# Altium integrated library Altera Cyclone V GX.IntLib: 50 symbols (part 27 of 31)
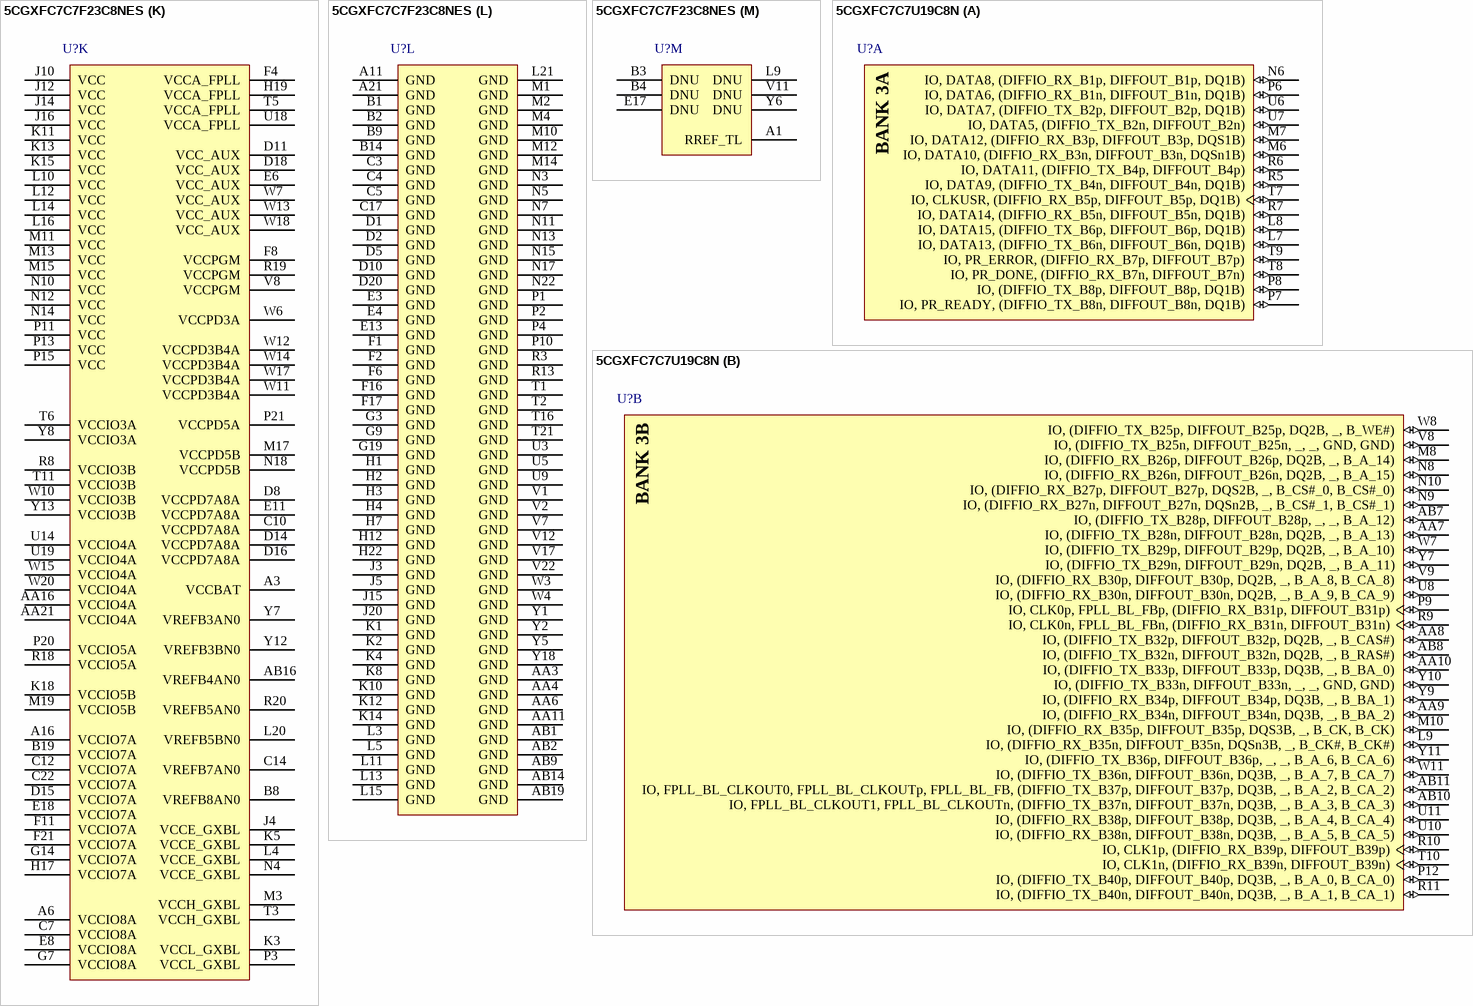
[diagram p171: symbols 5CGXFC7C7F23C8NES to 5CGXFC7C7U19C8N]

## 5CGXFC7C7F23C8NES
designator U?
Cyclone V GX Family FPGA, 1.07 to 1.13 V Supply, 240 I/O Pins, 7 PLLs, 484-Pin FBGA, Speed Grade 8, Commercial Grade, RoHS Compliant; Manufacturer: Altera; PartNumber: 5CGXFC7C7F23C8NES; Device Group: 5CGXFC7; GPIO: 240; Logic Elements (LE) (K): 149.5; Speed Grade: 8; DatasheetVersion: Rev. 3.1; PackageVersion: 2; PackageReference: 484-FBGA-2000A; PackageDescription: 484-Pin FineLine Ball-Grid Array (FBGA), Body 23 x 23 mm, Pitch 1 mm; Supplier 1: Digi-Key; Supplier Part Number 1: 544-2741-ND; Supplier 2: Mouser; Supplier Part Number 2: 989-5CGXFC7C7F23C8NE; RoHS: RoHS Compliant; Subcategory: Cyclone V GX; Voltage Supply: 1.07 to 1.13 V; Mounting Technology: Surface Mount; Code_JEDEC: MS-034-AAJ-1; ComponentLink1Description: Manufacturer URL; ComponentLink1URL: http://www.altera.com; ComponentLink2Description: Datasheet; ComponentLink2URL: http://www.altera.com/literature/hb/cyclone-v/cv_51002.pdf; ComponentLink3Description: Package Specification; ComponentLink3URL: http://www.altera.com/devicepackaging/04R00434-01.pdf; ComponentLink4Description: Device Handbook URL; ComponentLink4URL: http://www.altera.com/literature/hb/cyclone-v/cyclone5_handbook.pdf; ComponentLink5Description: Device Overview URL; ComponentLink5URL: http://www.altera.com/literature/hb/cyclone-v/cv_51001.pdf; ComponentLink6Description: Device Pin-Out URL; ComponentLink6URL: http://www.altera.com/literature/dp/cyclone-v/1.txt; ComponentLink7Description: Product URL; ComponentLink7URL: http://www.buyaltera.com/scripts/partsearch.dll?Detail&name=544-2741-ND
footprint ALTR-484-FBGA-2000A (FBGA, 484-Balls, Body 23x23mm, Pitch 1mm, Recommended)
part A pins: M6 IO, PR_DONE, (DIFFIO_RX_B7n, DIFFOUT_B7n) (io), M7 IO, PR_ERROR, (DIFFIO_RX_B7p, DIFFOUT_B7p) (io), N6 IO, DATA12, (DIFFIO_RX_B3p, DIFFOUT_B3p, DQS1B) (io), P6 IO, DATA10, (DIFFIO_RX_B3n, DIFFOUT_B3n, DQSn1B) (io), P7 IO, (DIFFIO_TX_B8p, DIFFOUT_B8p, DQ1B) (io), R5 IO, DATA8, (DIFFIO_RX_B1p, DIFFOUT_B1p, DQ1B) (io), R6 IO, DATA6, (DIFFIO_RX_B1n, DIFFOUT_B1n, DQ1B) (io), R7 IO, PR_READY, (DIFFIO_TX_B8n, DIFFOUT_B8n, DQ1B) (io), T7 IO, DATA14, (DIFFIO_RX_B5n, DIFFOUT_B5n, DQ1B) (io), T8 IO, CLKUSR, (DIFFIO_RX_B5p, DIFFOUT_B5p, DQ1B) (io), U6 IO, DATA13, (DIFFIO_TX_B6n, DIFFOUT_B6n, DQ1B) (io), U7 IO, DATA5, (DIFFIO_TX_B2n, DIFFOUT_B2n) (io), U8 IO, DATA7, (DIFFIO_TX_B2p, DIFFOUT_B2p, DQ1B) (io), V6 IO, DATA15, (DIFFIO_TX_B6p, DIFFOUT_B6p, DQ1B) (io), W8 IO, DATA9, (DIFFIO_TX_B4n, DIFFOUT_B4n, DQ1B) (io), W9 IO, DATA11, (DIFFIO_TX_B4p, DIFFOUT_B4p) (io)
part B pins: AA7 IO, (DIFFIO_TX_B28n, DIFFOUT_B28n, DQ2B, _, B_A_13) (io), AA8 IO, (DIFFIO_TX_B29n, DIFFOUT_B29n, DQ2B, _, B_A_11) (io), AA9 IO, (DIFFIO_TX_B32p, DIFFOUT_B32p, DQ2B, _, B_CAS#) (io), AA10 IO, (DIFFIO_TX_B32n, DIFFOUT_B32n, DQ2B, _, B_RAS#) (io), AA12 IO, (DIFFIO_TX_B40p, DIFFOUT_B40p, DQ3B, _, B_A_0, B_CA_0) (io), AB5 IO, (DIFFIO_TX_B25p, DIFFOUT_B25p, DQ2B, _, B_WE#) (io), AB6 IO, (DIFFIO_TX_B25n, DIFFOUT_B25n, _, _, GND, GND) (io), AB7 IO, (DIFFIO_TX_B28p, DIFFOUT_B28p, _, _, B_A_12) (io), AB8 IO, (DIFFIO_TX_B29p, DIFFOUT_B29p, DQ2B, _, B_A_10) (io), AB10 IO, FPLL_BL_CLKOUT1, FPLL_BL_CLKOUTn, (DIFFIO_TX_B37n, DIFFOUT_B37n, DQ3B, _, B_A_3, B_CA_3) (io), AB11 IO, FPLL_BL_CLKOUT0, FPLL_BL_CLKOUTp, FPLL_BL_FB, (DIFFIO_TX_B37p, DIFFOUT_B37p, DQ3B, _, B_A_2, B_CA_2) (io), M8 IO, CLK0n, FPLL_BL_FBn, (DIFFIO_RX_B31n, DIFFOUT_B31n) (io), M9 IO, CLK0p, FPLL_BL_FBp, (DIFFIO_RX_B31p, DIFFOUT_B31p) (io), N8 IO, (DIFFIO_RX_B27p, DIFFOUT_B27p, DQS2B, _, B_CS#_0, B_CS#_0) (io), N9 IO, CLK1p, (DIFFIO_RX_B39p, DIFFOUT_B39p) (io), P8 IO, (DIFFIO_RX_B27n, DIFFOUT_B27n, DQSn2B, _, B_CS#_1, B_CS#_1) (io), P9 IO, CLK1n, (DIFFIO_RX_B39n, DIFFOUT_B39n) (io), P12 IO, (DIFFIO_TX_B36p, DIFFOUT_B36p, _, _, B_A_6, B_CA_6) (io), R9 IO, (DIFFIO_RX_B34p, DIFFOUT_B34p, DQ3B, _, B_BA_1) (io), R10 IO, (DIFFIO_RX_B38n, DIFFOUT_B38n, DQ3B, _, B_A_5, B_CA_5) (io), R11 IO, (DIFFIO_RX_B38p, DIFFOUT_B38p, DQ3B, _, B_A_4, B_CA_4) (io), R12 IO, (DIFFIO_TX_B36n, DIFFOUT_B36n, DQ3B, _, B_A_7, B_CA_7) (io), T9 IO, (DIFFIO_RX_B30n, DIFFOUT_B30n, DQ2B, _, B_A_9, B_CA_9) (io), T10 IO, (DIFFIO_RX_B34n, DIFFOUT_B34n, DQ3B, _, B_BA_2) (io), U10 IO, (DIFFIO_RX_B30p, DIFFOUT_B30p, DQ2B, _, B_A_8, B_CA_8) (io), U11 IO, (DIFFIO_RX_B35n, DIFFOUT_B35n, DQSn3B, _, B_CK#, B_CK#) (io), U12 IO, (DIFFIO_RX_B35p, DIFFOUT_B35p, DQS3B, _, B_CK, B_CK) (io), V9 IO, (DIFFIO_RX_B26n, DIFFOUT_B26n, DQ2B, _, B_A_15) (io), V10 IO, (DIFFIO_RX_B26p, DIFFOUT_B26p, DQ2B, _, B_A_14) (io), Y9 IO, (DIFFIO_TX_B33p, DIFFOUT_B33p, DQ3B, _, B_BA_0) (io), Y10 IO, (DIFFIO_TX_B33n, DIFFOUT_B33n, _, _, GND, GND) (io), Y11 IO, (DIFFIO_TX_B40n, DIFFOUT_B40n, DQ3B, _, B_A_1, B_CA_1) (io)
part C pins: AA13 IO, (DIFFIO_TX_B44p, DIFFOUT_B44p, _, _, B_ODT_0, B_ODT_0) (io), AA14 IO, (DIFFIO_TX_B44n, DIFFOUT_B44n, DQ4B, _, B_DQ_3, B_DQ_3) (io), AA15 IO, (DIFFIO_TX_B45p, DIFFOUT_B45p, DQ4B, _, B_DQ_6, B_DQ_6) (io), AA17 IO, (DIFFIO_TX_B52n, DIFFOUT_B52n, DQ5B, DQ1B, B_DQ_11, B_DQ_11) (io), AA18 IO, (DIFFIO_TX_B52p, DIFFOUT_B52p, _, _, B_CKE_1, B_CKE_1) (io), AA19 IO, (DIFFIO_TX_B53n, DIFFOUT_B53n, DQ5B, DQ1B, B_CKE_0, B_CKE_0) (io), AA20 IO, (DIFFIO_TX_B53p, DIFFOUT_B53p, DQ5B, DQ1B, B_DQ_14, B_DQ_14) (io), AA22 IO, (DIFFIO_TX_B56p, DIFFOUT_B56p, DQ5B, DQ1B, B_DM_1, B_DM_1) (io), AB12 IO, (DIFFIO_TX_B41p, DIFFOUT_B41p, DQ4B, _, B_DQ_2, B_DQ_2) (io), AB13 IO, RZQ_0, (DIFFIO_TX_B41n, DIFFOUT_B41n) (io), AB15 IO, (DIFFIO_TX_B45n, DIFFOUT_B45n, DQ4B, _, B_ODT_1, B_ODT_1) (io), AB17 IO, (DIFFIO_TX_B48n, DIFFOUT_B48n, DQ4B, _, B_DQ_7, B_DQ_7) (io), AB18 IO, (DIFFIO_TX_B48p, DIFFOUT_B48p, DQ4B, _, B_DM_0, B_DM_0) (io), AB20 IO, (DIFFIO_TX_B49n, DIFFOUT_B49n, _, _, GND, GND) (io), AB21 IO, (DIFFIO_TX_B49p, DIFFOUT_B49p, DQ5B, DQ1B, B_DQ_10, B_DQ_10) (io), AB22 IO, (DIFFIO_TX_B56n, DIFFOUT_B56n, DQ5B, DQ1B, B_DQ_15, B_DQ_15) (io), P14 IO, (DIFFIO_RX_B59n, DIFFOUT_B59n, DQSn6B, DQSn1B, B_DQS#_2, B_DQS#_2) (io), R14 IO, (DIFFIO_RX_B59p, DIFFOUT_B59p, DQS6B, DQS1B, B_DQS_2, B_DQS_2) (io), T12 IO, (DIFFIO_RX_B43n, DIFFOUT_B43n, DQSn4B, _, B_DQS#_0, B_DQS#_0) (io), T13 IO, (DIFFIO_RX_B43p, DIFFOUT_B43p, DQS4B, _, B_DQS_0, B_DQS_0) (io), T14 IO, (DIFFIO_RX_B51n, DIFFOUT_B51n, DQSn5B, DQ1B, B_DQS#_1, B_DQS#_1) (io), U13 IO, (DIFFIO_RX_B42p, DIFFOUT_B42p, DQ4B, _, B_DQ_1, B_DQ_1) (io), U15 IO, (DIFFIO_RX_B51p, DIFFOUT_B51p, DQS5B, DQ1B, B_DQS_1, B_DQS_1) (io), U16 IO, (DIFFIO_RX_B63n, DIFFOUT_B63n, _, _, GND, GND) (io), U17 IO, (DIFFIO_RX_B63p, DIFFOUT_B63p, _, _, GND, GND) (io), U20 IO, (DIFFIO_TX_B64p, DIFFOUT_B64p, DQ6B, DQ1B, B_DM_2, B_DM_2) (io), U21 IO, (DIFFIO_TX_B64n, DIFFOUT_B64n, DQ6B, DQ1B, B_DQ_23, B_DQ_23) (io), U22 IO, (DIFFIO_TX_B61n, DIFFOUT_B61n, DQ6B, DQ1B, GND, GND) (io), V13 IO, (DIFFIO_RX_B42n, DIFFOUT_B42n, DQ4B, _, B_DQ_0, B_DQ_0) (io), V14 IO, CLK2n, (DIFFIO_RX_B47n, DIFFOUT_B47n) (io), V15 IO, CLK2p, (DIFFIO_RX_B47p, DIFFOUT_B47p) (io), V16 IO, CLK3n, (DIFFIO_RX_B55n, DIFFOUT_B55n) (io), V18 IO, (DIFFIO_RX_B62p, DIFFOUT_B62p, DQ6B, DQ1B, B_DQ_21, B_DQ_21) (io), V19 IO, (DIFFIO_RX_B62n, DIFFOUT_B62n, DQ6B, DQ1B, B_DQ_20, B_DQ_20) (io), V20 IO, (DIFFIO_RX_B54n, DIFFOUT_B54n, DQ5B, DQ1B, B_DQ_12, B_DQ_12) (io), V21 IO, (DIFFIO_TX_B61p, DIFFOUT_B61p, DQ6B, DQ1B, B_DQ_22, B_DQ_22) (io), W16 IO, CLK3p, (DIFFIO_RX_B55p, DIFFOUT_B55p) (io), W19 IO, (DIFFIO_RX_B54p, DIFFOUT_B54p, DQ5B, DQ1B, B_DQ_13, B_DQ_13) (io), W21 IO, (DIFFIO_TX_B60p, DIFFOUT_B60p, _, _, B_RESET#, B_RESET#) (io), W22 IO, (DIFFIO_TX_B57p, DIFFOUT_B57p, DQ6B, DQ1B, B_DQ_18, B_DQ_18) (io), Y14 IO, (DIFFIO_RX_B46n, DIFFOUT_B46n, DQ4B, _, B_DQ_4, B_DQ_4) (io), Y15 IO, (DIFFIO_RX_B46p, DIFFOUT_B46p, DQ4B, _, B_DQ_5, B_DQ_5) (io), Y16 IO, (DIFFIO_RX_B50n, DIFFOUT_B50n, DQ5B, DQ1B, B_DQ_8, B_DQ_8) (io), Y17 IO, (DIFFIO_RX_B50p, DIFFOUT_B50p, DQ5B, DQ1B, B_DQ_9, B_DQ_9) (io), Y19 IO, (DIFFIO_RX_B58p, DIFFOUT_B58p, DQ6B, DQ1B, B_DQ_17, B_DQ_17) (io), Y20 IO, (DIFFIO_RX_B58n, DIFFOUT_B58n, DQ6B, DQ1B, B_DQ_16, B_DQ_16) (io), Y21 IO, (DIFFIO_TX_B60n, DIFFOUT_B60n, DQ6B, DQ1B, B_DQ_19, B_DQ_19) (io), Y22 IO, (DIFFIO_TX_B57n, DIFFOUT_B57n, _, _, GND, GND) (io)
part D pins: P16 IO, (DIFFIO_RX_R8p, DIFFOUT_R8p, DQ1R) (io), P17 IO, (DIFFIO_RX_R8n, DIFFOUT_R8n, DQ1R) (io), P18 IO, (DIFFIO_TX_R7n, DIFFOUT_R7n) (io), P19 IO, (DIFFIO_TX_R7p, DIFFOUT_R7p, DQ1R) (io), P22 IO, DEV_CLRn, (DIFFIO_TX_R5n, DIFFOUT_R5n, DQ1R) (io), R15 IO, (DIFFIO_RX_R4n, DIFFOUT_R4n, DQ1R) (io), R16 IO, nPERSTL0, (DIFFIO_RX_R6p, DIFFOUT_R6p, DQS1R) (io), R17 IO, nPERSTL1, (DIFFIO_RX_R6n, DIFFOUT_R6n, DQSn1R) (io), R21 IO, DEV_OE, (DIFFIO_TX_R5p, DIFFOUT_R5p) (io), R22 IO, CvP_CONFDONE, (DIFFIO_TX_R3n, DIFFOUT_R3n, DQ1R) (io), T15 IO, (DIFFIO_RX_R4p, DIFFOUT_R4p, DQ1R) (io), T17 IO, CRC_ERROR, (DIFFIO_RX_R2n, DIFFOUT_R2n) (io), T18 IO, INIT_DONE, (DIFFIO_RX_R2p, DIFFOUT_R2p) (io), T19 IO, RZQ_1, (DIFFIO_TX_R1p, DIFFOUT_R1p, DQ1R) (io), T20 IO, PR_REQUEST, (DIFFIO_TX_R1n, DIFFOUT_R1n, DQ1R) (io), T22 IO, nCEO, (DIFFIO_TX_R3p, DIFFOUT_R3p, DQ1R) (io)
part E pins: K17 IO, (DIFFIO_RX_R37p, DIFFOUT_R37p, DQS2R) (io), K21 IO, (DIFFIO_TX_R40p, DIFFOUT_R40p, DQ2R) (io), K22 IO, (DIFFIO_TX_R40n, DIFFOUT_R40n) (io), L17 IO, (DIFFIO_RX_R37n, DIFFOUT_R37n, DQSn2R) (io), L18 IO, (DIFFIO_RX_R39n, DIFFOUT_R39n, DQ2R) (io), L19 IO, (DIFFIO_RX_R39p, DIFFOUT_R39p, DQ2R) (io), L22 IO, FPLL_BR_CLKOUT1, FPLL_BR_CLKOUTn, (DIFFIO_TX_R36n, DIFFOUT_R36n, DQ2R) (io), M16 IO, CLK6n, (DIFFIO_RX_R33n, DIFFOUT_R33n) (io), M18 IO, (DIFFIO_RX_R35n, DIFFOUT_R35n, DQ2R) (io), M20 IO, (DIFFIO_TX_R38p, DIFFOUT_R38p) (io), M21 IO, (DIFFIO_TX_R38n, DIFFOUT_R38n, DQ2R) (io), M22 IO, FPLL_BR_CLKOUT0, FPLL_BR_CLKOUTp, FPLL_BR_FB, (DIFFIO_TX_R36p, DIFFOUT_R36p, DQ2R) (io), N16 IO, CLK6p, (DIFFIO_RX_R33p, DIFFOUT_R33p) (io), N19 IO, (DIFFIO_RX_R35p, DIFFOUT_R35p, DQ2R) (io), N20 IO, (DIFFIO_TX_R34p, DIFFOUT_R34p, DQ2R) (io), N21 IO, (DIFFIO_TX_R34n, DIFFOUT_R34n, DQ2R) (io)
part F pins: A12 IO, (DIFFIO_TX_T36n, DIFFOUT_T36n, DQ5T, _, T_ODT_1, T_ODT_1) (io), A13 IO, (DIFFIO_TX_T30n, DIFFOUT_T30n, DQ4T, DQ2T, T_DQ_11, T_DQ_11) (io), A14 IO, (DIFFIO_TX_T24n, DIFFOUT_T24n, _, _, GND, GND) (io), A15 IO, (DIFFIO_TX_T24p, DIFFOUT_T24p, DQ3T, DQ2T, T_DQ_18, T_DQ_18) (io), A17 IO, (DIFFIO_RX_T15n, DIFFOUT_T15n, DQ2T, DQ1T, T_DQ_24, T_DQ_24) (io), A18 IO, (DIFFIO_RX_T15p, DIFFOUT_T15p, DQ2T, DQ1T, T_DQ_25, T_DQ_25) (io), A19 IO, (DIFFIO_TX_T16n, DIFFOUT_T16n, _, _, GND, GND) (io), A20 IO, (DIFFIO_TX_T16p, DIFFOUT_T16p, DQ2T, DQ1T, T_DQ_26, T_DQ_26) (io), A22 IO, (DIFFIO_TX_T12n, DIFFOUT_T12n, DQ2T, DQ1T, GND, GND) (io), B11 IO, RZQ_2, (DIFFIO_TX_T40n, DIFFOUT_T40n) (io), B12 IO, (DIFFIO_TX_T36p, DIFFOUT_T36p, DQ5T, _, T_DQ_6, T_DQ_6) (io), B13 IO, (DIFFIO_TX_T30p, DIFFOUT_T30p, _, _, T_CKE_1, T_CKE_1) (io), B15 IO, (DIFFIO_RX_T27n, DIFFOUT_T27n, DQ4T, DQ2T, T_DQ_12, T_DQ_12) (io), B16 IO, (DIFFIO_TX_T18p, DIFFOUT_T18p, DQ3T, DQ2T, T_DM_2, T_DM_2) (io), B17 IO, (DIFFIO_TX_T6n, DIFFOUT_T6n, DQ1T, DQ1T, T_DQ_35, T_DQ_35) (io), B18 IO, (DIFFIO_TX_T6p, DIFFOUT_T6p, _, _, GND, GND) (io), B20 IO, (DIFFIO_TX_T4n, DIFFOUT_T4n, DQ1T, DQ1T, GND, GND) (io), B21 IO, (DIFFIO_RX_T7n, DIFFOUT_T7n, DQ1T, DQ1T, T_DQ_32, T_DQ_32) (io), B22 IO, (DIFFIO_TX_T12p, DIFFOUT_T12p, DQ2T, DQ1T, T_DQ_30, T_DQ_30) (io), C11 IO, (DIFFIO_TX_T40p, DIFFOUT_T40p, DQ5T, _, T_DQ_2, T_DQ_2) (io), C13 IO, (DIFFIO_RX_T35n, DIFFOUT_T35n, DQ5T, _, T_DQ_4, T_DQ_4) (io), C15 IO, (DIFFIO_RX_T27p, DIFFOUT_T27p, DQ4T, DQ2T, T_DQ_13, T_DQ_13) (io), C16 IO, (DIFFIO_TX_T18n, DIFFOUT_T18n, DQ3T, DQ2T, T_DQ_23, T_DQ_23) (io), C18 IO, (DIFFIO_RX_T11n, DIFFOUT_T11n, DQ2T, DQ1T, T_DQ_28, T_DQ_28) (io), C19 IO, (DIFFIO_RX_T11p, DIFFOUT_T11p, DQ2T, DQ1T, T_DQ_29, T_DQ_29) (io), C20 IO, (DIFFIO_TX_T4p, DIFFOUT_T4p, DQ1T, DQ1T, T_DQ_38, T_DQ_38) (io), C21 IO, (DIFFIO_RX_T7p, DIFFOUT_T7p, DQ1T, DQ1T, T_DQ_33, T_DQ_33) (io), D12 IO, (DIFFIO_RX_T39p, DIFFOUT_T39p, DQ5T, _, T_DQ_1, T_DQ_1) (io), D13 IO, (DIFFIO_RX_T35p, DIFFOUT_T35p, DQ5T, _, T_DQ_5, T_DQ_5) (io), D17 IO, (DIFFIO_RX_T19p, DIFFOUT_T19p, DQ3T, DQ2T, T_DQ_21, T_DQ_21) (io), D19 IO, (DIFFIO_RX_T3n, DIFFOUT_T3n, DQ1T, DQ1T, T_DQ_36, T_DQ_36) (io), D21 IO, (DIFFIO_TX_T2n, DIFFOUT_T2n, DQ1T, DQ1T, T_DQ_39, T_DQ_39) (io), D22 IO, (DIFFIO_TX_T10n, DIFFOUT_T10n, DQ2T, DQ1T, T_DQ_31, T_DQ_31) (io), E12 IO, (DIFFIO_RX_T39n, DIFFOUT_T39n, DQ5T, _, T_DQ_0, T_DQ_0) (io), E14 IO, (DIFFIO_RX_T31p, DIFFOUT_T31p, DQ4T, DQ2T, T_DQ_9, T_DQ_9) (io), E15 IO, (DIFFIO_RX_T23p, DIFFOUT_T23p, DQ3T, DQ2T, T_DQ_17, T_DQ_17) (io), E16 IO, (DIFFIO_RX_T19n, DIFFOUT_T19n, DQ3T, DQ2T, T_DQ_20, T_DQ_20) (io), E19 IO, (DIFFIO_RX_T3p, DIFFOUT_T3p, DQ1T, DQ1T, T_DQ_37, T_DQ_37) (io), E20 IO, (DIFFIO_TX_T14p, DIFFOUT_T14p, _, _, GND, GND) (io), E21 IO, (DIFFIO_TX_T2p, DIFFOUT_T2p, DQ1T, DQ1T, T_DM_4, T_DM_4) (io), E22 IO, (DIFFIO_TX_T10p, DIFFOUT_T10p, DQ2T, DQ1T, T_DM_3, T_DM_3) (io), F12 IO, (DIFFIO_TX_T34n, DIFFOUT_T34n, DQ5T, _, T_DQ_7, T_DQ_7) (io), F13 IO, (DIFFIO_RX_T31n, DIFFOUT_T31n, DQ4T, DQ2T, T_DQ_8, T_DQ_8) (io), F14 IO, (DIFFIO_TX_T28n, DIFFOUT_T28n, DQ4T, DQ2T, T_CKE_0, T_CKE_0) (io), F15 IO, (DIFFIO_RX_T23n, DIFFOUT_T23n, DQ3T, DQ2T, T_DQ_16, T_DQ_16) (io), F18 IO, (DIFFIO_RX_T13n, DIFFOUT_T13n, DQSn2T, DQ1T, T_DQS#_3, T_DQS#_3) (io), F19 IO, (DIFFIO_RX_T13p, DIFFOUT_T13p, DQS2T, DQ1T, T_DQS_3, T_DQS_3) (io), F20 IO, (DIFFIO_TX_T14n, DIFFOUT_T14n, DQ2T, DQ1T, T_DQ_27, T_DQ_27) (io), F22 IO, (DIFFIO_TX_T8n, DIFFOUT_T8n, _, _, GND, GND) (io), G11 IO, (DIFFIO_TX_T34p, DIFFOUT_T34p, DQ5T, _, T_DM_0, T_DM_0) (io), G12 IO, (DIFFIO_RX_T37n, DIFFOUT_T37n, DQSn5T, _, T_DQS#_0, T_DQS#_0) (io), G13 IO, CLK10n, (DIFFIO_RX_T33n, DIFFOUT_T33n) (io), G15 IO, (DIFFIO_TX_T28p, DIFFOUT_T28p, DQ4T, DQ2T, T_DQ_14, T_DQ_14) (io), G16 IO, (DIFFIO_TX_T20n, DIFFOUT_T20n, DQ3T, DQ2T, GND, GND) (io), G17 IO, (DIFFIO_TX_T20p, DIFFOUT_T20p, DQ3T, DQ2T, T_DQ_22, T_DQ_22) (io), G18 IO, (DIFFIO_RX_T21p, DIFFOUT_T21p, DQS3T, DQS2T, T_DQS_2, T_DQS_2) (io), G20 IO, (DIFFIO_RX_T9p, DIFFOUT_T9p, _, _, GND, GND) (io), G21 IO, (DIFFIO_RX_T1n, DIFFOUT_T1n, _, _, GND, GND) (io), G22 IO, (DIFFIO_TX_T8p, DIFFOUT_T8p, DQ1T, DQ1T, T_DQ_34, T_DQ_34) (io), H10 IO, (DIFFIO_TX_T32n, DIFFOUT_T32n, _, _, GND, GND) (io), H11 IO, (DIFFIO_RX_T37p, DIFFOUT_T37p, DQS5T, _, T_DQS_0, T_DQS_0) (io), H13 IO, CLK10p, (DIFFIO_RX_T33p, DIFFOUT_T33p) (io), H14 IO, (DIFFIO_RX_T29p, DIFFOUT_T29p, DQS4T, DQ2T, T_DQS_1, T_DQS_1) (io), H15 IO, CLK11n, (DIFFIO_RX_T25n, DIFFOUT_T25n) (io), H16 IO, CLK11p, (DIFFIO_RX_T25p, DIFFOUT_T25p) (io), H18 IO, (DIFFIO_RX_T21n, DIFFOUT_T21n, DQSn3T, DQSn2T, T_DQS#_2, T_DQS#_2) (io), H20 IO, (DIFFIO_RX_T9n, DIFFOUT_T9n, _, _, GND, GND) (io), H21 IO, (DIFFIO_RX_T1p, DIFFOUT_T1p, _, _, GND, GND) (io), J11 IO, (DIFFIO_TX_T32p, DIFFOUT_T32p, DQ4T, DQ2T, T_DQ_10, T_DQ_10) (io), J13 IO, (DIFFIO_RX_T29n, DIFFOUT_T29n, DQSn4T, DQ2T, T_DQS#_1, T_DQS#_1) (io), J17 IO, (DIFFIO_TX_T26p, DIFFOUT_T26p, DQ4T, DQ2T, T_DM_1, T_DM_1) (io), J18 IO, (DIFFIO_TX_T22n, DIFFOUT_T22n, DQ3T, DQ2T, T_DQ_19, T_DQ_19) (io), J19 IO, (DIFFIO_TX_T22p, DIFFOUT_T22p, _, _, T_RESET#, T_RESET#) (io), J21 IO, (DIFFIO_RX_T5p, DIFFOUT_T5p, DQS1T, DQS1T, T_DQS_4, T_DQS_4) (io), J22 IO, (DIFFIO_RX_T5n, DIFFOUT_T5n, DQSn1T, DQSn1T, T_DQS#_4, T_DQS#_4) (io), K9 IO, (DIFFIO_TX_T38n, DIFFOUT_T38n, DQ5T, _, T_DQ_3, T_DQ_3) (io), K16 IO, (DIFFIO_TX_T26n, DIFFOUT_T26n, DQ4T, DQ2T, T_DQ_15, T_DQ_15) (io), K19 IO, (DIFFIO_RX_T17n, DIFFOUT_T17n, _, _, GND, GND) (io), K20 IO, (DIFFIO_RX_T17p, DIFFOUT_T17p, _, _, GND, GND) (io), L8 IO, (DIFFIO_TX_T38p, DIFFOUT_T38p, _, _, T_ODT_0, T_ODT_0) (io)
part G pins: A5 IO, (DIFFIO_TX_T48p, DIFFOUT_T48p, DQ6T, _, T_BA_0) (io), A7 IO, (DIFFIO_RX_T51n, DIFFOUT_T51n, DQ7T, _, T_A_9, T_CA_9) (io), A8 IO, (DIFFIO_RX_T51p, DIFFOUT_T51p, DQ7T, _, T_A_8, T_CA_8) (io), A9 IO, (DIFFIO_TX_T46n, DIFFOUT_T46n, DQ6T, _, T_A_7, T_CA_7) (io), A10 IO, (DIFFIO_TX_T46p, DIFFOUT_T46p, _, _, T_A_6, T_CA_6) (io), B5 IO, (DIFFIO_TX_T48n, DIFFOUT_T48n, _, _, GND, GND) (io), B6 IO, (DIFFIO_TX_T50p, DIFFOUT_T50p, DQ7T, _, T_CAS#) (io), B7 IO, (DIFFIO_TX_T50n, DIFFOUT_T50n, DQ7T, _, T_RAS#) (io), B10 IO, (DIFFIO_RX_T47p, DIFFOUT_T47p, DQ6T, _, T_BA_1) (io), C6 IO, (DIFFIO_TX_T52p, DIFFOUT_T52p, DQ7T, _, T_A_10) (io), C8 IO, (DIFFIO_TX_T54n, DIFFOUT_T54n, DQ7T, _, T_A_13) (io), C9 IO, (DIFFIO_RX_T47n, DIFFOUT_T47n, DQ6T, _, T_BA_2) (io), D6 IO, (DIFFIO_TX_T52n, DIFFOUT_T52n, DQ7T, _, T_A_11) (io), D7 IO, (DIFFIO_TX_T54p, DIFFOUT_T54p, _, _, T_A_12) (io), D9 IO, (DIFFIO_RX_T53n, DIFFOUT_T53n, DQSn7T, _, T_CS#_1, T_CS#_1) (io), E7 IO, (DIFFIO_TX_T56n, DIFFOUT_T56n, _, _, GND, GND) (io), E9 IO, (DIFFIO_RX_T53p, DIFFOUT_T53p, DQS7T, _, T_CS#_0, T_CS#_0) (io), E10 IO, CLK8p, FPLL_TL_FBp, (DIFFIO_RX_T49p, DIFFOUT_T49p) (io), F7 IO, (DIFFIO_TX_T56p, DIFFOUT_T56p, DQ7T, _, T_WE#) (io), F9 IO, CLK8n, FPLL_TL_FBn, (DIFFIO_RX_T49n, DIFFOUT_T49n) (io), F10 IO, CLK9n, (DIFFIO_RX_T41n, DIFFOUT_T41n) (io), G6 IO, (DIFFIO_RX_T55p, DIFFOUT_T55p, DQ7T, _, T_A_14) (io), G8 IO, FPLL_TL_CLKOUT1, FPLL_TL_CLKOUTn, (DIFFIO_TX_T44n, DIFFOUT_T44n, DQ6T, _, T_A_3, T_CA_3) (io), G10 IO, CLK9p, (DIFFIO_RX_T41p, DIFFOUT_T41p) (io), H6 IO, (DIFFIO_RX_T55n, DIFFOUT_T55n, DQ7T, _, T_A_15) (io), H8 IO, FPLL_TL_CLKOUT0, FPLL_TL_CLKOUTp, FPLL_TL_FB, (DIFFIO_TX_T44p, DIFFOUT_T44p, DQ6T, _, T_A_2, T_CA_2) (io), H9 IO, (DIFFIO_RX_T45n, DIFFOUT_T45n, DQSn6T, _, T_CK#, T_CK#) (io), J7 IO, (DIFFIO_RX_T43p, DIFFOUT_T43p, DQ6T, _, T_A_4, T_CA_4) (io), J8 IO, (DIFFIO_RX_T43n, DIFFOUT_T43n, DQ6T, _, T_A_5, T_CA_5) (io), J9 IO, (DIFFIO_RX_T45p, DIFFOUT_T45p, DQS6T, _, T_CK, T_CK) (io), K7 IO, (DIFFIO_TX_T42n, DIFFOUT_T42n, DQ6T, _, T_A_1, T_CA_1) (io), L7 IO, (DIFFIO_TX_T42p, DIFFOUT_T42p, DQ6T, _, T_A_0, T_CA_0) (io)
part H pins: AA1 GXB_RX_L0n, GXB_REFCLK_L0n (in), AA2 GXB_RX_L0p, GXB_REFCLK_L0p (in), N1 GXB_TX_L2n (out), N2 GXB_TX_L2p (out), R1 GXB_RX_L2n, GXB_REFCLK_L2n (in), R2 GXB_RX_L2p, GXB_REFCLK_L2p (in), U1 GXB_TX_L1n (out), U2 GXB_TX_L1p (out), U4 REFCLK0Ln (in), V4 REFCLK0Lp (in), W1 GXB_RX_L1n, GXB_REFCLK_L1n (in), W2 GXB_RX_L1p, GXB_REFCLK_L1p (in), Y3 GXB_TX_L0n (out), Y4 GXB_TX_L0p (out)
part I pins: C1 GXB_RX_L5n, GXB_REFCLK_L5n (in), C2 GXB_RX_L5p, GXB_REFCLK_L5p (in), D3 GXB_TX_L5n (out), D4 GXB_TX_L5p (out), E1 GXB_TX_L4n (out), E2 GXB_TX_L4p (out), F5 REFCLK1Ln (in), G1 GXB_RX_L4n, GXB_REFCLK_L4n (in), G2 GXB_RX_L4p, GXB_REFCLK_L4p (in), G4 REFCLK1Lp (in), J1 GXB_TX_L3n (out), J2 GXB_TX_L3p (out), L1 GXB_RX_L3n, GXB_REFCLK_L3n (in), L2 GXB_RX_L3p, GXB_REFCLK_L3p (in)
part J pins: A2 MSEL2 (in), A4 nCONFIG (in), AA5 AS_DATA2, DATA2 (io), AB3 AS_DATA1, DATA1 (io), AB4 AS_DATA0, ASDO, DATA0 (io), E5 MSEL3 (in), F3 MSEL4 (in), G5 nCE (in), H5 nSTATUS (io), J6 MSEL1 (in), K6 CONF_DONE (io), L6 MSEL0 (in), M5 TDO (out), P5 TMS (in), R4 nCSO, DATA4 (out), T4 AS_DATA3, DATA3 (io), V3 DCLK (io), V5 TCK (in), W5 TDI (in)
part K pins: A3 VCCBAT (power), A6 VCCIO8A (power), A16 VCCIO7A (power), AA16 VCCIO4A (power), AA21 VCCIO4A (power), AB16 VREFB4AN0 (power), B8 VREFB8AN0 (power), B19 VCCIO7A (power), C7 VCCIO8A (power), C10 VCCPD7A8A (power), C12 VCCIO7A (power), C14 VREFB7AN0 (power), C22 VCCIO7A (power), D8 VCCPD7A8A (power), D11 VCC_AUX (power), D14 VCCPD7A8A (power), D15 VCCIO7A (power), D16 VCCPD7A8A (power), D18 VCC_AUX (power), E6 VCC_AUX (power), E8 VCCIO8A (power), E11 VCCPD7A8A (power), E18 VCCIO7A (power), F4 VCCA_FPLL (power), F8 VCCPGM (power), F11 VCCIO7A (power), F21 VCCIO7A (power), G7 VCCIO8A (power), G14 VCCIO7A (power), H17 VCCIO7A (power), H19 VCCA_FPLL (power), J4 VCCE_GXBL (power), J10 VCC (power), J12 VCC (power), J14 VCC (power), J16 VCC (power), K3 VCCL_GXBL (power), K5 VCCE_GXBL (power), K11 VCC (power), K13 VCC (power), K15 VCC (power), K18 VCCIO5B (power), L4 VCCE_GXBL (power), L10 VCC (power), L12 VCC (power), L14 VCC (power), L16 VCC (power), L20 VREFB5BN0 (power), M3 VCCH_GXBL (power), M11 VCC (power), M13 VCC (power), M15 VCC (power), M17 VCCPD5B (power), M19 VCCIO5B (power), N4 VCCE_GXBL (power), N10 VCC (power), N12 VCC (power), N14 VCC (power), N18 VCCPD5B (power), P3 VCCL_GXBL (power), P11 VCC (power), P13 VCC (power), P15 VCC (power), P20 VCCIO5A (power), P21 VCCPD5A (power), R8 VCCIO3B (power), R18 VCCIO5A (power), R19 VCCPGM (power), R20 VREFB5AN0 (power), T3 VCCH_GXBL (power), T5 VCCA_FPLL (power), T6 VCCIO3A (power), T11 VCCIO3B (power), U14 VCCIO4A (power), U18 VCCA_FPLL (power), U19 VCCIO4A (power), V8 VCCPGM (power), W6 VCCPD3A (power), W7 VCC_AUX (power), W10 VCCIO3B (power), W11 VCCPD3B4A (power), W12 VCCPD3B4A (power), W13 VCC_AUX (power), W14 VCCPD3B4A (power), W15 VCCIO4A (power), W17 VCCPD3B4A (power), W18 VCC_AUX (power), W20 VCCIO4A (power), Y7 VREFB3AN0 (power), Y8 VCCIO3A (power), Y12 VREFB3BN0 (power), Y13 VCCIO3B (power)
part L pins: A11 GND (power), A21 GND (power), AA3 GND (power), AA4 GND (power), AA6 GND (power), AA11 GND (power), AB1 GND (power), AB2 GND (power), AB9 GND (power), AB14 GND (power), AB19 GND (power), B1 GND (power), B2 GND (power), B9 GND (power), B14 GND (power), C3 GND (power), C4 GND (power), C5 GND (power), C17 GND (power), D1 GND (power), D2 GND (power), D5 GND (power), D10 GND (power), D20 GND (power), E3 GND (power), E4 GND (power), E13 GND (power), F1 GND (power), F2 GND (power), F6 GND (power), F16 GND (power), F17 GND (power), G3 GND (power), G9 GND (power), G19 GND (power), H1 GND (power), H2 GND (power), H3 GND (power), H4 GND (power), H7 GND (power), H12 GND (power), H22 GND (power), J3 GND (power), J5 GND (power), J15 GND (power), J20 GND (power), K1 GND (power), K2 GND (power), K4 GND (power), K8 GND (power), K10 GND (power), K12 GND (power), K14 GND (power), L3 GND (power), L5 GND (power), L11 GND (power), L13 GND (power), L15 GND (power), L21 GND (power), M1 GND (power), M2 GND (power), M4 GND (power), M10 GND (power), M12 GND (power), M14 GND (power), N3 GND (power), N5 GND (power), N7 GND (power), N11 GND (power), N13 GND (power), N15 GND (power), N17 GND (power), N22 GND (power), P1 GND (power), P2 GND (power), P4 GND (power), P10 GND (power), R3 GND (power), R13 GND (power), T1 GND (power), T2 GND (power), T16 GND (power), T21 GND (power), U3 GND (power), U5 GND (power), U9 GND (power), V1 GND (power), V2 GND (power), V7 GND (power), V12 GND (power), V17 GND (power), V22 GND (power), W3 GND (power), W4 GND (power), Y1 GND (power), Y2 GND (power), Y5 GND (power), Y18 GND (power)
part M pins: A1 RREF_TL, B3 DNU, B4 DNU, E17 DNU, L9 DNU, V11 DNU, Y6 DNU
part A text: BANK 3A
part B text: BANK 3B
part C text: BANK 4A
part D text: BANK 5A
part E text: BANK 5B
part F text: BANK 7A
part G text: BANK 8A

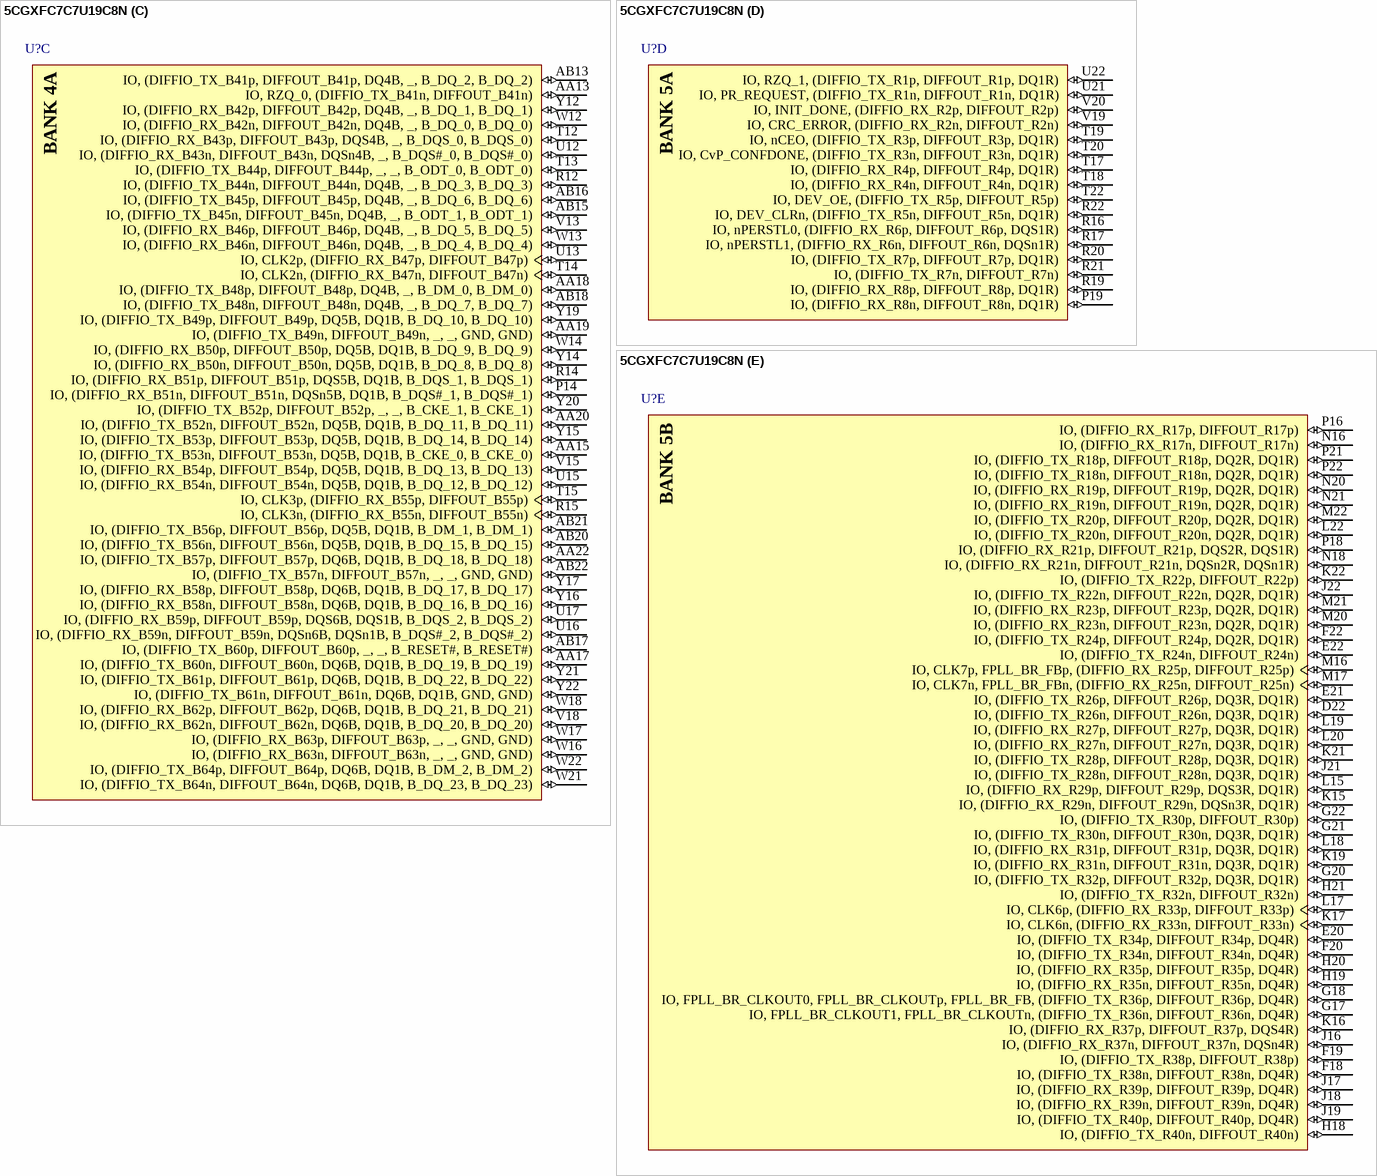
[diagram p128: symbol 5CGXFC7C7U19C8N]

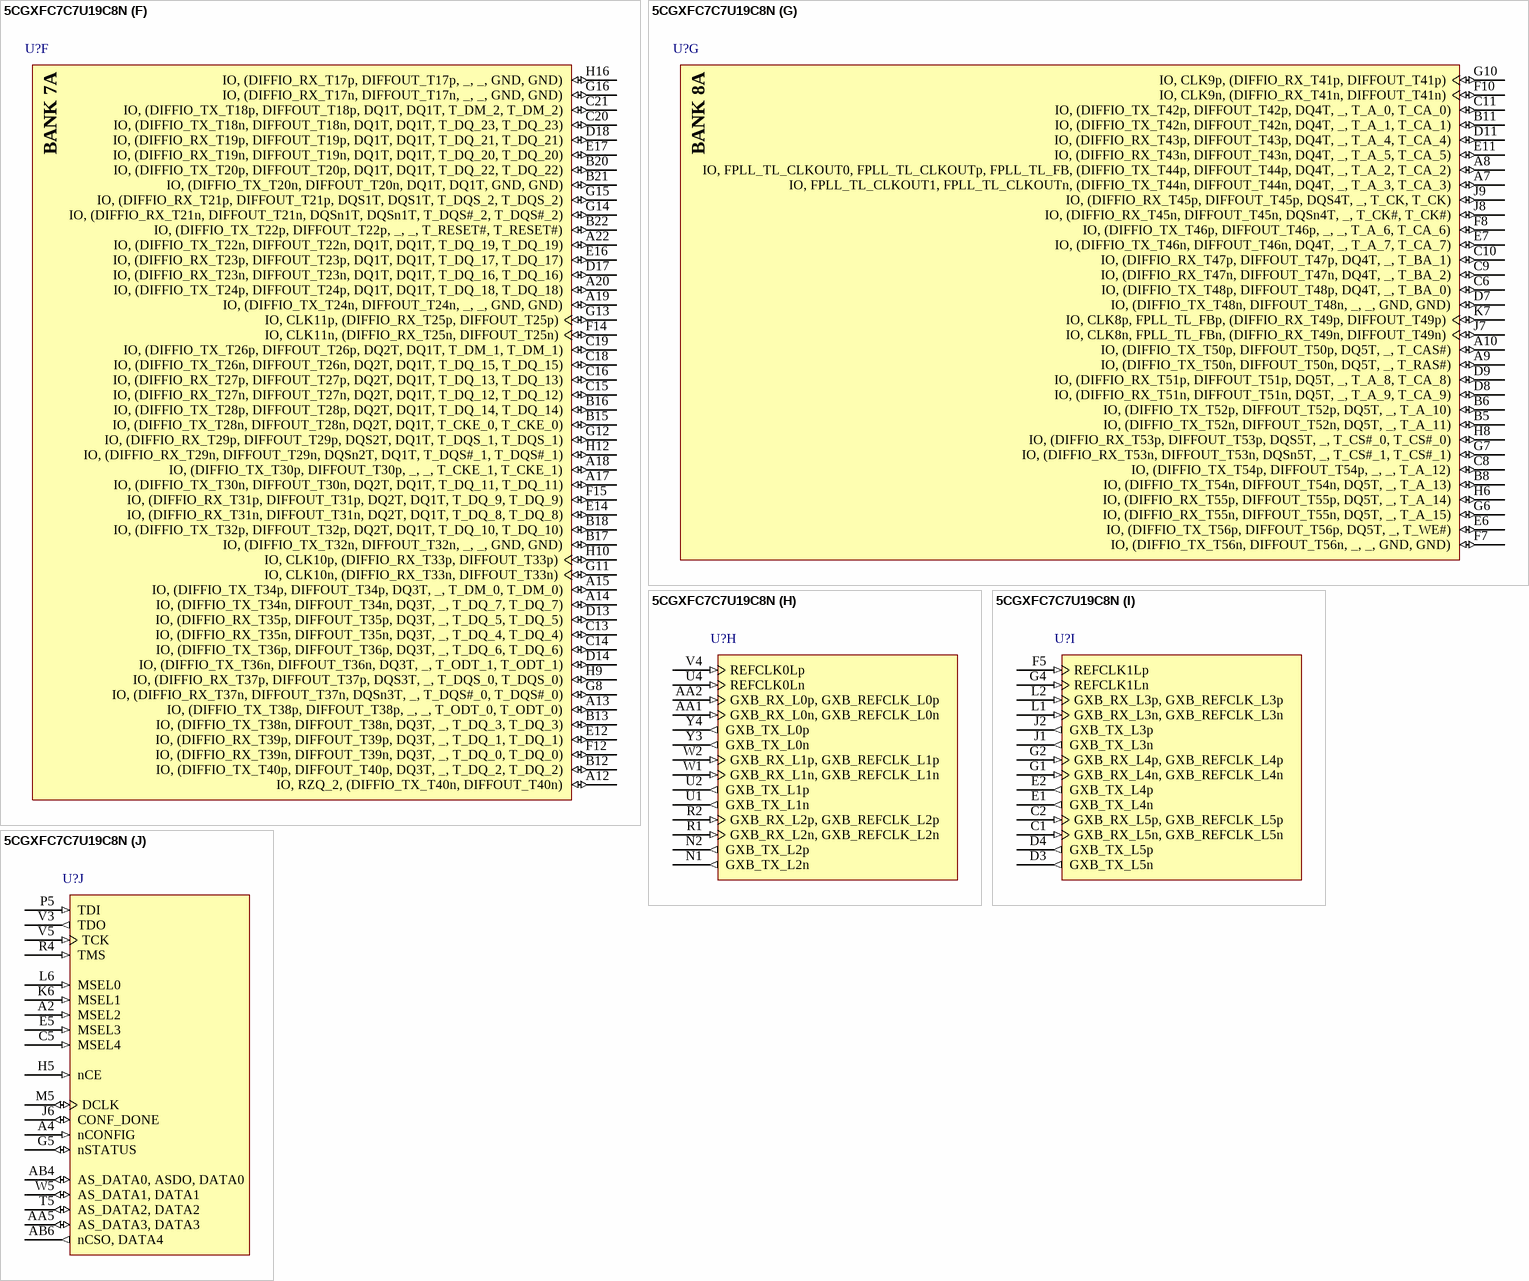
[diagram p129: symbol 5CGXFC7C7U19C8N]

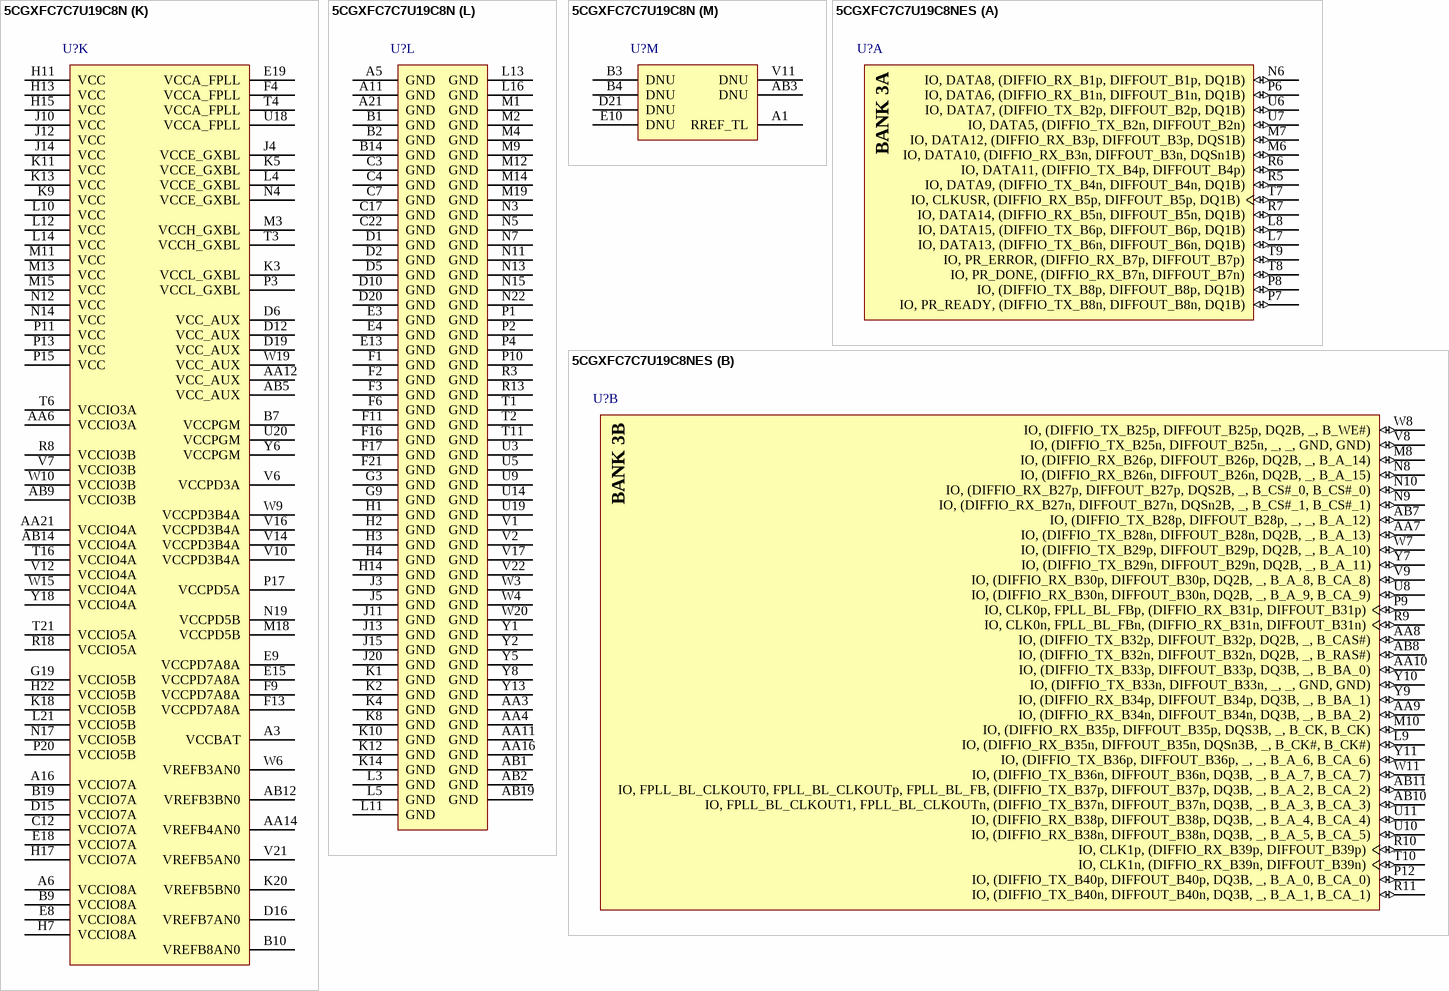
[diagram p130: symbols 5CGXFC7C7U19C8N to 5CGXFC7C7U19C8NES]

## 5CGXFC7C7U19C8N
designator U?
Cyclone V GX Family FPGA, 1.07 to 1.13 V Supply, 240 I/O Pins, 7 PLLs, 484-Pin UBGA, Speed Grade 8, Commercial Grade, RoHS Compliant; Manufacturer: Altera; PartNumber: 5CGXFC7C7U19C8N; Device Group: 5CGXFC7; GPIO: 240; Logic Elements (LE) (K): 149.5; Speed Grade: 8; DatasheetVersion: Rev. 3.1; PackageVersion: 1; PackageReference: 484-UBGA-1900A; PackageDescription: 484-Pin Ultra FineLine Ball-Grid Array (UBGA), Body 19 x 19 mm, Pitch 0.8 mm; Supplier 1: Digi-Key; Supplier Part Number 1: 544-2771-ND; Supplier 2: Mouser; Supplier Part Number 2: 989-5CGXFC7C7U19C8N; RoHS: RoHS Compliant; Subcategory: Cyclone V GX; Voltage Supply: 1.07 to 1.13 V; Mounting Technology: Surface Mount; Code_JEDEC: MO-275-PPAA-2; ComponentLink1Description: Manufacturer URL; ComponentLink1URL: http://www.altera.com; ComponentLink2Description: Datasheet; ComponentLink2URL: http://www.altera.com/literature/hb/cyclone-v/cv_51002.pdf; ComponentLink3Description: Package Specification; ComponentLink3URL: http://www.altera.com/devicepackaging/04R00436-01.pdf; ComponentLink4Description: Device Handbook URL; ComponentLink4URL: http://www.altera.com/literature/hb/cyclone-v/cyclone5_handbook.pdf; ComponentLink5Description: Device Overview URL; ComponentLink5URL: http://www.altera.com/literature/hb/cyclone-v/cv_51001.pdf; ComponentLink6Description: Device Pin-Out URL; ComponentLink6URL: http://www.altera.com/literature/dp/cyclone-v/1.txt; ComponentLink7Description: Product URL; ComponentLink7URL: http://www.buyaltera.com/scripts/partsearch.dll?Detail&name=5CGXFC7C7U19C8N-ND
footprint ALTR-484-UBGA-1900A (UBGA, 484-Balls, Body 19x19mm, Pitch 0.8mm, Recommended)
part A pins: L7 IO, DATA13, (DIFFIO_TX_B6n, DIFFOUT_B6n, DQ1B) (io), L8 IO, DATA15, (DIFFIO_TX_B6p, DIFFOUT_B6p, DQ1B) (io), M6 IO, DATA10, (DIFFIO_RX_B3n, DIFFOUT_B3n, DQSn1B) (io), M7 IO, DATA12, (DIFFIO_RX_B3p, DIFFOUT_B3p, DQS1B) (io), N6 IO, DATA8, (DIFFIO_RX_B1p, DIFFOUT_B1p, DQ1B) (io), P6 IO, DATA6, (DIFFIO_RX_B1n, DIFFOUT_B1n, DQ1B) (io), P7 IO, PR_READY, (DIFFIO_TX_B8n, DIFFOUT_B8n, DQ1B) (io), P8 IO, (DIFFIO_TX_B8p, DIFFOUT_B8p, DQ1B) (io), R5 IO, DATA9, (DIFFIO_TX_B4n, DIFFOUT_B4n, DQ1B) (io), R6 IO, DATA11, (DIFFIO_TX_B4p, DIFFOUT_B4p) (io), R7 IO, DATA14, (DIFFIO_RX_B5n, DIFFOUT_B5n, DQ1B) (io), T7 IO, CLKUSR, (DIFFIO_RX_B5p, DIFFOUT_B5p, DQ1B) (io), T8 IO, PR_DONE, (DIFFIO_RX_B7n, DIFFOUT_B7n) (io), T9 IO, PR_ERROR, (DIFFIO_RX_B7p, DIFFOUT_B7p) (io), U6 IO, DATA7, (DIFFIO_TX_B2p, DIFFOUT_B2p, DQ1B) (io), U7 IO, DATA5, (DIFFIO_TX_B2n, DIFFOUT_B2n) (io)
part B pins: AA7 IO, (DIFFIO_TX_B28n, DIFFOUT_B28n, DQ2B, _, B_A_13) (io), AA8 IO, (DIFFIO_TX_B32p, DIFFOUT_B32p, DQ2B, _, B_CAS#) (io), AA9 IO, (DIFFIO_RX_B34n, DIFFOUT_B34n, DQ3B, _, B_BA_2) (io), AA10 IO, (DIFFIO_TX_B33p, DIFFOUT_B33p, DQ3B, _, B_BA_0) (io), AB7 IO, (DIFFIO_TX_B28p, DIFFOUT_B28p, _, _, B_A_12) (io), AB8 IO, (DIFFIO_TX_B32n, DIFFOUT_B32n, DQ2B, _, B_RAS#) (io), AB10 IO, FPLL_BL_CLKOUT1, FPLL_BL_CLKOUTn, (DIFFIO_TX_B37n, DIFFOUT_B37n, DQ3B, _, B_A_3, B_CA_3) (io), AB11 IO, FPLL_BL_CLKOUT0, FPLL_BL_CLKOUTp, FPLL_BL_FB, (DIFFIO_TX_B37p, DIFFOUT_B37p, DQ3B, _, B_A_2, B_CA_2) (io), L9 IO, (DIFFIO_RX_B35n, DIFFOUT_B35n, DQSn3B, _, B_CK#, B_CK#) (io), M8 IO, (DIFFIO_RX_B26p, DIFFOUT_B26p, DQ2B, _, B_A_14) (io), M10 IO, (DIFFIO_RX_B35p, DIFFOUT_B35p, DQS3B, _, B_CK, B_CK) (io), N8 IO, (DIFFIO_RX_B26n, DIFFOUT_B26n, DQ2B, _, B_A_15) (io), N9 IO, (DIFFIO_RX_B27n, DIFFOUT_B27n, DQSn2B, _, B_CS#_1, B_CS#_1) (io), N10 IO, (DIFFIO_RX_B27p, DIFFOUT_B27p, DQS2B, _, B_CS#_0, B_CS#_0) (io), P9 IO, CLK0p, FPLL_BL_FBp, (DIFFIO_RX_B31p, DIFFOUT_B31p) (io), P12 IO, (DIFFIO_TX_B40p, DIFFOUT_B40p, DQ3B, _, B_A_0, B_CA_0) (io), R9 IO, CLK0n, FPLL_BL_FBn, (DIFFIO_RX_B31n, DIFFOUT_B31n) (io), R10 IO, CLK1p, (DIFFIO_RX_B39p, DIFFOUT_B39p) (io), R11 IO, (DIFFIO_TX_B40n, DIFFOUT_B40n, DQ3B, _, B_A_1, B_CA_1) (io), T10 IO, CLK1n, (DIFFIO_RX_B39n, DIFFOUT_B39n) (io), U8 IO, (DIFFIO_RX_B30n, DIFFOUT_B30n, DQ2B, _, B_A_9, B_CA_9) (io), U10 IO, (DIFFIO_RX_B38n, DIFFOUT_B38n, DQ3B, _, B_A_5, B_CA_5) (io), U11 IO, (DIFFIO_RX_B38p, DIFFOUT_B38p, DQ3B, _, B_A_4, B_CA_4) (io), V8 IO, (DIFFIO_TX_B25n, DIFFOUT_B25n, _, _, GND, GND) (io), V9 IO, (DIFFIO_RX_B30p, DIFFOUT_B30p, DQ2B, _, B_A_8, B_CA_8) (io), W7 IO, (DIFFIO_TX_B29p, DIFFOUT_B29p, DQ2B, _, B_A_10) (io), W8 IO, (DIFFIO_TX_B25p, DIFFOUT_B25p, DQ2B, _, B_WE#) (io), W11 IO, (DIFFIO_TX_B36n, DIFFOUT_B36n, DQ3B, _, B_A_7, B_CA_7) (io), Y7 IO, (DIFFIO_TX_B29n, DIFFOUT_B29n, DQ2B, _, B_A_11) (io), Y9 IO, (DIFFIO_RX_B34p, DIFFOUT_B34p, DQ3B, _, B_BA_1) (io), Y10 IO, (DIFFIO_TX_B33n, DIFFOUT_B33n, _, _, GND, GND) (io), Y11 IO, (DIFFIO_TX_B36p, DIFFOUT_B36p, _, _, B_A_6, B_CA_6) (io)
part C pins: AA13 IO, RZQ_0, (DIFFIO_TX_B41n, DIFFOUT_B41n) (io), AA15 IO, (DIFFIO_TX_B53n, DIFFOUT_B53n, DQ5B, DQ1B, B_CKE_0, B_CKE_0) (io), AA17 IO, (DIFFIO_TX_B60n, DIFFOUT_B60n, DQ6B, DQ1B, B_DQ_19, B_DQ_19) (io), AA18 IO, (DIFFIO_TX_B48p, DIFFOUT_B48p, DQ4B, _, B_DM_0, B_DM_0) (io), AA19 IO, (DIFFIO_TX_B49n, DIFFOUT_B49n, _, _, GND, GND) (io), AA20 IO, (DIFFIO_TX_B52n, DIFFOUT_B52n, DQ5B, DQ1B, B_DQ_11, B_DQ_11) (io), AA22 IO, (DIFFIO_TX_B57p, DIFFOUT_B57p, DQ6B, DQ1B, B_DQ_18, B_DQ_18) (io), AB13 IO, (DIFFIO_TX_B41p, DIFFOUT_B41p, DQ4B, _, B_DQ_2, B_DQ_2) (io), AB15 IO, (DIFFIO_TX_B45n, DIFFOUT_B45n, DQ4B, _, B_ODT_1, B_ODT_1) (io), AB16 IO, (DIFFIO_TX_B45p, DIFFOUT_B45p, DQ4B, _, B_DQ_6, B_DQ_6) (io), AB17 IO, (DIFFIO_TX_B60p, DIFFOUT_B60p, _, _, B_RESET#, B_RESET#) (io), AB18 IO, (DIFFIO_TX_B48n, DIFFOUT_B48n, DQ4B, _, B_DQ_7, B_DQ_7) (io), AB20 IO, (DIFFIO_TX_B56n, DIFFOUT_B56n, DQ5B, DQ1B, B_DQ_15, B_DQ_15) (io), AB21 IO, (DIFFIO_TX_B56p, DIFFOUT_B56p, DQ5B, DQ1B, B_DM_1, B_DM_1) (io), AB22 IO, (DIFFIO_TX_B57n, DIFFOUT_B57n, _, _, GND, GND) (io), P14 IO, (DIFFIO_RX_B51n, DIFFOUT_B51n, DQSn5B, DQ1B, B_DQS#_1, B_DQS#_1) (io), R12 IO, (DIFFIO_TX_B44n, DIFFOUT_B44n, DQ4B, _, B_DQ_3, B_DQ_3) (io), R14 IO, (DIFFIO_RX_B51p, DIFFOUT_B51p, DQS5B, DQ1B, B_DQS_1, B_DQS_1) (io), R15 IO, CLK3n, (DIFFIO_RX_B55n, DIFFOUT_B55n) (io), T12 IO, (DIFFIO_RX_B43p, DIFFOUT_B43p, DQS4B, _, B_DQS_0, B_DQS_0) (io), T13 IO, (DIFFIO_TX_B44p, DIFFOUT_B44p, _, _, B_ODT_0, B_ODT_0) (io), T14 IO, CLK2n, (DIFFIO_RX_B47n, DIFFOUT_B47n) (io), T15 IO, CLK3p, (DIFFIO_RX_B55p, DIFFOUT_B55p) (io), U12 IO, (DIFFIO_RX_B43n, DIFFOUT_B43n, DQSn4B, _, B_DQS#_0, B_DQS#_0) (io), U13 IO, CLK2p, (DIFFIO_RX_B47p, DIFFOUT_B47p) (io), U15 IO, (DIFFIO_RX_B54n, DIFFOUT_B54n, DQ5B, DQ1B, B_DQ_12, B_DQ_12) (io), U16 IO, (DIFFIO_RX_B59n, DIFFOUT_B59n, DQSn6B, DQSn1B, B_DQS#_2, B_DQS#_2) (io), U17 IO, (DIFFIO_RX_B59p, DIFFOUT_B59p, DQS6B, DQS1B, B_DQS_2, B_DQS_2) (io), V13 IO, (DIFFIO_RX_B46p, DIFFOUT_B46p, DQ4B, _, B_DQ_5, B_DQ_5) (io), V15 IO, (DIFFIO_RX_B54p, DIFFOUT_B54p, DQ5B, DQ1B, B_DQ_13, B_DQ_13) (io), V18 IO, (DIFFIO_RX_B62n, DIFFOUT_B62n, DQ6B, DQ1B, B_DQ_20, B_DQ_20) (io), W12 IO, (DIFFIO_RX_B42n, DIFFOUT_B42n, DQ4B, _, B_DQ_0, B_DQ_0) (io), W13 IO, (DIFFIO_RX_B46n, DIFFOUT_B46n, DQ4B, _, B_DQ_4, B_DQ_4) (io), W14 IO, (DIFFIO_RX_B50p, DIFFOUT_B50p, DQ5B, DQ1B, B_DQ_9, B_DQ_9) (io), W16 IO, (DIFFIO_RX_B63n, DIFFOUT_B63n, _, _, GND, GND) (io), W17 IO, (DIFFIO_RX_B63p, DIFFOUT_B63p, _, _, GND, GND) (io), W18 IO, (DIFFIO_RX_B62p, DIFFOUT_B62p, DQ6B, DQ1B, B_DQ_21, B_DQ_21) (io), W21 IO, (DIFFIO_TX_B64n, DIFFOUT_B64n, DQ6B, DQ1B, B_DQ_23, B_DQ_23) (io), W22 IO, (DIFFIO_TX_B64p, DIFFOUT_B64p, DQ6B, DQ1B, B_DM_2, B_DM_2) (io), Y12 IO, (DIFFIO_RX_B42p, DIFFOUT_B42p, DQ4B, _, B_DQ_1, B_DQ_1) (io), Y14 IO, (DIFFIO_RX_B50n, DIFFOUT_B50n, DQ5B, DQ1B, B_DQ_8, B_DQ_8) (io), Y15 IO, (DIFFIO_TX_B53p, DIFFOUT_B53p, DQ5B, DQ1B, B_DQ_14, B_DQ_14) (io), Y16 IO, (DIFFIO_RX_B58n, DIFFOUT_B58n, DQ6B, DQ1B, B_DQ_16, B_DQ_16) (io), Y17 IO, (DIFFIO_RX_B58p, DIFFOUT_B58p, DQ6B, DQ1B, B_DQ_17, B_DQ_17) (io), Y19 IO, (DIFFIO_TX_B49p, DIFFOUT_B49p, DQ5B, DQ1B, B_DQ_10, B_DQ_10) (io), Y20 IO, (DIFFIO_TX_B52p, DIFFOUT_B52p, _, _, B_CKE_1, B_CKE_1) (io), Y21 IO, (DIFFIO_TX_B61p, DIFFOUT_B61p, DQ6B, DQ1B, B_DQ_22, B_DQ_22) (io), Y22 IO, (DIFFIO_TX_B61n, DIFFOUT_B61n, DQ6B, DQ1B, GND, GND) (io)
part D pins: P19 IO, (DIFFIO_RX_R8n, DIFFOUT_R8n, DQ1R) (io), R16 IO, nPERSTL0, (DIFFIO_RX_R6p, DIFFOUT_R6p, DQS1R) (io), R17 IO, nPERSTL1, (DIFFIO_RX_R6n, DIFFOUT_R6n, DQSn1R) (io), R19 IO, (DIFFIO_RX_R8p, DIFFOUT_R8p, DQ1R) (io), R20 IO, (DIFFIO_TX_R7p, DIFFOUT_R7p, DQ1R) (io), R21 IO, (DIFFIO_TX_R7n, DIFFOUT_R7n) (io), R22 IO, DEV_CLRn, (DIFFIO_TX_R5n, DIFFOUT_R5n, DQ1R) (io), T17 IO, (DIFFIO_RX_R4p, DIFFOUT_R4p, DQ1R) (io), T18 IO, (DIFFIO_RX_R4n, DIFFOUT_R4n, DQ1R) (io), T19 IO, nCEO, (DIFFIO_TX_R3p, DIFFOUT_R3p, DQ1R) (io), T20 IO, CvP_CONFDONE, (DIFFIO_TX_R3n, DIFFOUT_R3n, DQ1R) (io), T22 IO, DEV_OE, (DIFFIO_TX_R5p, DIFFOUT_R5p) (io), U21 IO, PR_REQUEST, (DIFFIO_TX_R1n, DIFFOUT_R1n, DQ1R) (io), U22 IO, RZQ_1, (DIFFIO_TX_R1p, DIFFOUT_R1p, DQ1R) (io), V19 IO, CRC_ERROR, (DIFFIO_RX_R2n, DIFFOUT_R2n) (io), V20 IO, INIT_DONE, (DIFFIO_RX_R2p, DIFFOUT_R2p) (io)
part E pins: D22 IO, (DIFFIO_TX_R26n, DIFFOUT_R26n, DQ3R, DQ1R) (io), E20 IO, (DIFFIO_TX_R34p, DIFFOUT_R34p, DQ4R) (io), E21 IO, (DIFFIO_TX_R26p, DIFFOUT_R26p, DQ3R, DQ1R) (io), E22 IO, (DIFFIO_TX_R24n, DIFFOUT_R24n) (io), F18 IO, (DIFFIO_TX_R38n, DIFFOUT_R38n, DQ4R) (io), F19 IO, (DIFFIO_TX_R38p, DIFFOUT_R38p) (io), F20 IO, (DIFFIO_TX_R34n, DIFFOUT_R34n, DQ4R) (io), F22 IO, (DIFFIO_TX_R24p, DIFFOUT_R24p, DQ2R, DQ1R) (io), G17 IO, FPLL_BR_CLKOUT1, FPLL_BR_CLKOUTn, (DIFFIO_TX_R36n, DIFFOUT_R36n, DQ4R) (io), G18 IO, FPLL_BR_CLKOUT0, FPLL_BR_CLKOUTp, FPLL_BR_FB, (DIFFIO_TX_R36p, DIFFOUT_R36p, DQ4R) (io), G20 IO, (DIFFIO_TX_R32p, DIFFOUT_R32p, DQ3R, DQ1R) (io), G21 IO, (DIFFIO_TX_R30n, DIFFOUT_R30n, DQ3R, DQ1R) (io), G22 IO, (DIFFIO_TX_R30p, DIFFOUT_R30p) (io), H18 IO, (DIFFIO_TX_R40n, DIFFOUT_R40n) (io), H19 IO, (DIFFIO_RX_R35n, DIFFOUT_R35n, DQ4R) (io), H20 IO, (DIFFIO_RX_R35p, DIFFOUT_R35p, DQ4R) (io), H21 IO, (DIFFIO_TX_R32n, DIFFOUT_R32n) (io), J16 IO, (DIFFIO_RX_R37n, DIFFOUT_R37n, DQSn4R) (io), J17 IO, (DIFFIO_RX_R39p, DIFFOUT_R39p, DQ4R) (io), J18 IO, (DIFFIO_RX_R39n, DIFFOUT_R39n, DQ4R) (io), J19 IO, (DIFFIO_TX_R40p, DIFFOUT_R40p, DQ4R) (io), J21 IO, (DIFFIO_TX_R28n, DIFFOUT_R28n, DQ3R, DQ1R) (io), J22 IO, (DIFFIO_TX_R22n, DIFFOUT_R22n, DQ2R, DQ1R) (io), K15 IO, (DIFFIO_RX_R29n, DIFFOUT_R29n, DQSn3R, DQ1R) (io), K16 IO, (DIFFIO_RX_R37p, DIFFOUT_R37p, DQS4R) (io), K17 IO, CLK6n, (DIFFIO_RX_R33n, DIFFOUT_R33n) (io), K19 IO, (DIFFIO_RX_R31n, DIFFOUT_R31n, DQ3R, DQ1R) (io), K21 IO, (DIFFIO_TX_R28p, DIFFOUT_R28p, DQ3R, DQ1R) (io), K22 IO, (DIFFIO_TX_R22p, DIFFOUT_R22p) (io), L15 IO, (DIFFIO_RX_R29p, DIFFOUT_R29p, DQS3R, DQ1R) (io), L17 IO, CLK6p, (DIFFIO_RX_R33p, DIFFOUT_R33p) (io), L18 IO, (DIFFIO_RX_R31p, DIFFOUT_R31p, DQ3R, DQ1R) (io), L19 IO, (DIFFIO_RX_R27p, DIFFOUT_R27p, DQ3R, DQ1R) (io), L20 IO, (DIFFIO_RX_R27n, DIFFOUT_R27n, DQ3R, DQ1R) (io), L22 IO, (DIFFIO_TX_R20n, DIFFOUT_R20n, DQ2R, DQ1R) (io), M16 IO, CLK7p, FPLL_BR_FBp, (DIFFIO_RX_R25p, DIFFOUT_R25p) (io), M17 IO, CLK7n, FPLL_BR_FBn, (DIFFIO_RX_R25n, DIFFOUT_R25n) (io), M20 IO, (DIFFIO_RX_R23n, DIFFOUT_R23n, DQ2R, DQ1R) (io), M21 IO, (DIFFIO_RX_R23p, DIFFOUT_R23p, DQ2R, DQ1R) (io), M22 IO, (DIFFIO_TX_R20p, DIFFOUT_R20p, DQ2R, DQ1R) (io), N16 IO, (DIFFIO_RX_R17n, DIFFOUT_R17n) (io), N18 IO, (DIFFIO_RX_R21n, DIFFOUT_R21n, DQSn2R, DQSn1R) (io), N20 IO, (DIFFIO_RX_R19p, DIFFOUT_R19p, DQ2R, DQ1R) (io), N21 IO, (DIFFIO_RX_R19n, DIFFOUT_R19n, DQ2R, DQ1R) (io), P16 IO, (DIFFIO_RX_R17p, DIFFOUT_R17p) (io), P18 IO, (DIFFIO_RX_R21p, DIFFOUT_R21p, DQS2R, DQS1R) (io), P21 IO, (DIFFIO_TX_R18p, DIFFOUT_R18p, DQ2R, DQ1R) (io), P22 IO, (DIFFIO_TX_R18n, DIFFOUT_R18n, DQ2R, DQ1R) (io)
part F pins: A12 IO, RZQ_2, (DIFFIO_TX_T40n, DIFFOUT_T40n) (io), A13 IO, (DIFFIO_TX_T38p, DIFFOUT_T38p, _, _, T_ODT_0, T_ODT_0) (io), A14 IO, (DIFFIO_TX_T34n, DIFFOUT_T34n, DQ3T, _, T_DQ_7, T_DQ_7) (io), A15 IO, (DIFFIO_TX_T34p, DIFFOUT_T34p, DQ3T, _, T_DM_0, T_DM_0) (io), A17 IO, (DIFFIO_TX_T30n, DIFFOUT_T30n, DQ2T, DQ1T, T_DQ_11, T_DQ_11) (io), A18 IO, (DIFFIO_TX_T30p, DIFFOUT_T30p, _, _, T_CKE_1, T_CKE_1) (io), A19 IO, (DIFFIO_TX_T24n, DIFFOUT_T24n, _, _, GND, GND) (io), A20 IO, (DIFFIO_TX_T24p, DIFFOUT_T24p, DQ1T, DQ1T, T_DQ_18, T_DQ_18) (io), A22 IO, (DIFFIO_TX_T22n, DIFFOUT_T22n, DQ1T, DQ1T, T_DQ_19, T_DQ_19) (io), B12 IO, (DIFFIO_TX_T40p, DIFFOUT_T40p, DQ3T, _, T_DQ_2, T_DQ_2) (io), B13 IO, (DIFFIO_TX_T38n, DIFFOUT_T38n, DQ3T, _, T_DQ_3, T_DQ_3) (io), B15 IO, (DIFFIO_TX_T28n, DIFFOUT_T28n, DQ2T, DQ1T, T_CKE_0, T_CKE_0) (io), B16 IO, (DIFFIO_TX_T28p, DIFFOUT_T28p, DQ2T, DQ1T, T_DQ_14, T_DQ_14) (io), B17 IO, (DIFFIO_TX_T32n, DIFFOUT_T32n, _, _, GND, GND) (io), B18 IO, (DIFFIO_TX_T32p, DIFFOUT_T32p, DQ2T, DQ1T, T_DQ_10, T_DQ_10) (io), B20 IO, (DIFFIO_TX_T20p, DIFFOUT_T20p, DQ1T, DQ1T, T_DQ_22, T_DQ_22) (io), B21 IO, (DIFFIO_TX_T20n, DIFFOUT_T20n, DQ1T, DQ1T, GND, GND) (io), B22 IO, (DIFFIO_TX_T22p, DIFFOUT_T22p, _, _, T_RESET#, T_RESET#) (io), C13 IO, (DIFFIO_RX_T35n, DIFFOUT_T35n, DQ3T, _, T_DQ_4, T_DQ_4) (io), C14 IO, (DIFFIO_TX_T36p, DIFFOUT_T36p, DQ3T, _, T_DQ_6, T_DQ_6) (io), C15 IO, (DIFFIO_RX_T27n, DIFFOUT_T27n, DQ2T, DQ1T, T_DQ_12, T_DQ_12) (io), C16 IO, (DIFFIO_RX_T27p, DIFFOUT_T27p, DQ2T, DQ1T, T_DQ_13, T_DQ_13) (io), C18 IO, (DIFFIO_TX_T26n, DIFFOUT_T26n, DQ2T, DQ1T, T_DQ_15, T_DQ_15) (io), C19 IO, (DIFFIO_TX_T26p, DIFFOUT_T26p, DQ2T, DQ1T, T_DM_1, T_DM_1) (io), C20 IO, (DIFFIO_TX_T18n, DIFFOUT_T18n, DQ1T, DQ1T, T_DQ_23, T_DQ_23) (io), C21 IO, (DIFFIO_TX_T18p, DIFFOUT_T18p, DQ1T, DQ1T, T_DM_2, T_DM_2) (io), D13 IO, (DIFFIO_RX_T35p, DIFFOUT_T35p, DQ3T, _, T_DQ_5, T_DQ_5) (io), D14 IO, (DIFFIO_TX_T36n, DIFFOUT_T36n, DQ3T, _, T_ODT_1, T_ODT_1) (io), D17 IO, (DIFFIO_RX_T23n, DIFFOUT_T23n, DQ1T, DQ1T, T_DQ_16, T_DQ_16) (io), D18 IO, (DIFFIO_RX_T19p, DIFFOUT_T19p, DQ1T, DQ1T, T_DQ_21, T_DQ_21) (io), E12 IO, (DIFFIO_RX_T39p, DIFFOUT_T39p, DQ3T, _, T_DQ_1, T_DQ_1) (io), E14 IO, (DIFFIO_RX_T31n, DIFFOUT_T31n, DQ2T, DQ1T, T_DQ_8, T_DQ_8) (io), E16 IO, (DIFFIO_RX_T23p, DIFFOUT_T23p, DQ1T, DQ1T, T_DQ_17, T_DQ_17) (io), E17 IO, (DIFFIO_RX_T19n, DIFFOUT_T19n, DQ1T, DQ1T, T_DQ_20, T_DQ_20) (io), F12 IO, (DIFFIO_RX_T39n, DIFFOUT_T39n, DQ3T, _, T_DQ_0, T_DQ_0) (io), F14 IO, CLK11n, (DIFFIO_RX_T25n, DIFFOUT_T25n) (io), F15 IO, (DIFFIO_RX_T31p, DIFFOUT_T31p, DQ2T, DQ1T, T_DQ_9, T_DQ_9) (io), G8 IO, (DIFFIO_RX_T37n, DIFFOUT_T37n, DQSn3T, _, T_DQS#_0, T_DQS#_0) (io), G11 IO, CLK10n, (DIFFIO_RX_T33n, DIFFOUT_T33n) (io), G12 IO, (DIFFIO_RX_T29p, DIFFOUT_T29p, DQS2T, DQ1T, T_DQS_1, T_DQS_1) (io), G13 IO, CLK11p, (DIFFIO_RX_T25p, DIFFOUT_T25p) (io), G14 IO, (DIFFIO_RX_T21n, DIFFOUT_T21n, DQSn1T, DQSn1T, T_DQS#_2, T_DQS#_2) (io), G15 IO, (DIFFIO_RX_T21p, DIFFOUT_T21p, DQS1T, DQS1T, T_DQS_2, T_DQS_2) (io), G16 IO, (DIFFIO_RX_T17n, DIFFOUT_T17n, _, _, GND, GND) (io), H9 IO, (DIFFIO_RX_T37p, DIFFOUT_T37p, DQS3T, _, T_DQS_0, T_DQS_0) (io), H10 IO, CLK10p, (DIFFIO_RX_T33p, DIFFOUT_T33p) (io), H12 IO, (DIFFIO_RX_T29n, DIFFOUT_T29n, DQSn2T, DQ1T, T_DQS#_1, T_DQS#_1) (io), H16 IO, (DIFFIO_RX_T17p, DIFFOUT_T17p, _, _, GND, GND) (io)
part G pins: A7 IO, FPLL_TL_CLKOUT1, FPLL_TL_CLKOUTn, (DIFFIO_TX_T44n, DIFFOUT_T44n, DQ4T, _, T_A_3, T_CA_3) (io), A8 IO, FPLL_TL_CLKOUT0, FPLL_TL_CLKOUTp, FPLL_TL_FB, (DIFFIO_TX_T44p, DIFFOUT_T44p, DQ4T, _, T_A_2, T_CA_2) (io), A9 IO, (DIFFIO_TX_T50n, DIFFOUT_T50n, DQ5T, _, T_RAS#) (io), A10 IO, (DIFFIO_TX_T50p, DIFFOUT_T50p, DQ5T, _, T_CAS#) (io), B5 IO, (DIFFIO_TX_T52n, DIFFOUT_T52n, DQ5T, _, T_A_11) (io), B6 IO, (DIFFIO_TX_T52p, DIFFOUT_T52p, DQ5T, _, T_A_10) (io), B8 IO, (DIFFIO_TX_T54n, DIFFOUT_T54n, DQ5T, _, T_A_13) (io), B11 IO, (DIFFIO_TX_T42n, DIFFOUT_T42n, DQ4T, _, T_A_1, T_CA_1) (io), C6 IO, (DIFFIO_TX_T48p, DIFFOUT_T48p, DQ4T, _, T_BA_0) (io), C8 IO, (DIFFIO_TX_T54p, DIFFOUT_T54p, _, _, T_A_12) (io), C9 IO, (DIFFIO_RX_T47n, DIFFOUT_T47n, DQ4T, _, T_BA_2) (io), C10 IO, (DIFFIO_RX_T47p, DIFFOUT_T47p, DQ4T, _, T_BA_1) (io), C11 IO, (DIFFIO_TX_T42p, DIFFOUT_T42p, DQ4T, _, T_A_0, T_CA_0) (io), D7 IO, (DIFFIO_TX_T48n, DIFFOUT_T48n, _, _, GND, GND) (io), D8 IO, (DIFFIO_RX_T51n, DIFFOUT_T51n, DQ5T, _, T_A_9, T_CA_9) (io), D9 IO, (DIFFIO_RX_T51p, DIFFOUT_T51p, DQ5T, _, T_A_8, T_CA_8) (io), D11 IO, (DIFFIO_RX_T43p, DIFFOUT_T43p, DQ4T, _, T_A_4, T_CA_4) (io), E6 IO, (DIFFIO_TX_T56p, DIFFOUT_T56p, DQ5T, _, T_WE#) (io), E7 IO, (DIFFIO_TX_T46n, DIFFOUT_T46n, DQ4T, _, T_A_7, T_CA_7) (io), E11 IO, (DIFFIO_RX_T43n, DIFFOUT_T43n, DQ4T, _, T_A_5, T_CA_5) (io), F7 IO, (DIFFIO_TX_T56n, DIFFOUT_T56n, _, _, GND, GND) (io), F8 IO, (DIFFIO_TX_T46p, DIFFOUT_T46p, _, _, T_A_6, T_CA_6) (io), F10 IO, CLK9n, (DIFFIO_RX_T41n, DIFFOUT_T41n) (io), G6 IO, (DIFFIO_RX_T55n, DIFFOUT_T55n, DQ5T, _, T_A_15) (io), G7 IO, (DIFFIO_RX_T53n, DIFFOUT_T53n, DQSn5T, _, T_CS#_1, T_CS#_1) (io), G10 IO, CLK9p, (DIFFIO_RX_T41p, DIFFOUT_T41p) (io), H6 IO, (DIFFIO_RX_T55p, DIFFOUT_T55p, DQ5T, _, T_A_14) (io), H8 IO, (DIFFIO_RX_T53p, DIFFOUT_T53p, DQS5T, _, T_CS#_0, T_CS#_0) (io), J7 IO, CLK8n, FPLL_TL_FBn, (DIFFIO_RX_T49n, DIFFOUT_T49n) (io), J8 IO, (DIFFIO_RX_T45n, DIFFOUT_T45n, DQSn4T, _, T_CK#, T_CK#) (io), J9 IO, (DIFFIO_RX_T45p, DIFFOUT_T45p, DQS4T, _, T_CK, T_CK) (io), K7 IO, CLK8p, FPLL_TL_FBp, (DIFFIO_RX_T49p, DIFFOUT_T49p) (io)
part H pins: AA1 GXB_RX_L0n, GXB_REFCLK_L0n (in), AA2 GXB_RX_L0p, GXB_REFCLK_L0p (in), N1 GXB_TX_L2n (out), N2 GXB_TX_L2p (out), R1 GXB_RX_L2n, GXB_REFCLK_L2n (in), R2 GXB_RX_L2p, GXB_REFCLK_L2p (in), U1 GXB_TX_L1n (out), U2 GXB_TX_L1p (out), U4 REFCLK0Ln (in), V4 REFCLK0Lp (in), W1 GXB_RX_L1n, GXB_REFCLK_L1n (in), W2 GXB_RX_L1p, GXB_REFCLK_L1p (in), Y3 GXB_TX_L0n (out), Y4 GXB_TX_L0p (out)
part I pins: C1 GXB_RX_L5n, GXB_REFCLK_L5n (in), C2 GXB_RX_L5p, GXB_REFCLK_L5p (in), D3 GXB_TX_L5n (out), D4 GXB_TX_L5p (out), E1 GXB_TX_L4n (out), E2 GXB_TX_L4p (out), F5 REFCLK1Lp (in), G1 GXB_RX_L4n, GXB_REFCLK_L4n (in), G2 GXB_RX_L4p, GXB_REFCLK_L4p (in), G4 REFCLK1Ln (in), J1 GXB_TX_L3n (out), J2 GXB_TX_L3p (out), L1 GXB_RX_L3n, GXB_REFCLK_L3n (in), L2 GXB_RX_L3p, GXB_REFCLK_L3p (in)
part J pins: A2 MSEL2 (in), A4 nCONFIG (in), AA5 AS_DATA3, DATA3 (io), AB4 AS_DATA0, ASDO, DATA0 (io), AB6 nCSO, DATA4 (out), C5 MSEL4 (in), E5 MSEL3 (in), G5 nSTATUS (io), H5 nCE (in), J6 CONF_DONE (io), K6 MSEL1 (in), L6 MSEL0 (in), M5 DCLK (io), P5 TDI (in), R4 TMS (in), T5 AS_DATA2, DATA2 (io), V3 TDO (out), V5 TCK (in), W5 AS_DATA1, DATA1 (io)
part K pins: A3 VCCBAT (power), A6 VCCIO8A (power), A16 VCCIO7A (power), AA6 VCCIO3A (power), AA12 VCC_AUX (power), AA14 VREFB4AN0 (power), AA21 VCCIO4A (power), AB5 VCC_AUX (power), AB9 VCCIO3B (power), AB12 VREFB3BN0 (power), AB14 VCCIO4A (power), B7 VCCPGM (power), B9 VCCIO8A (power), B10 VREFB8AN0 (power), B19 VCCIO7A (power), C12 VCCIO7A (power), D6 VCC_AUX (power), D12 VCC_AUX (power), D15 VCCIO7A (power), D16 VREFB7AN0 (power), D19 VCC_AUX (power), E8 VCCIO8A (power), E9 VCCPD7A8A (power), E15 VCCPD7A8A (power), E18 VCCIO7A (power), E19 VCCA_FPLL (power), F4 VCCA_FPLL (power), F9 VCCPD7A8A (power), F13 VCCPD7A8A (power), G19 VCCIO5B (power), H7 VCCIO8A (power), H11 VCC (power), H13 VCC (power), H15 VCC (power), H17 VCCIO7A (power), H22 VCCIO5B (power), J4 VCCE_GXBL (power), J10 VCC (power), J12 VCC (power), J14 VCC (power), K3 VCCL_GXBL (power), K5 VCCE_GXBL (power), K9 VCC (power), K11 VCC (power), K13 VCC (power), K18 VCCIO5B (power), K20 VREFB5BN0 (power), L4 VCCE_GXBL (power), L10 VCC (power), L12 VCC (power), L14 VCC (power), L21 VCCIO5B (power), M3 VCCH_GXBL (power), M11 VCC (power), M13 VCC (power), M15 VCC (power), M18 VCCPD5B (power), N4 VCCE_GXBL (power), N12 VCC (power), N14 VCC (power), N17 VCCIO5B (power), N19 VCCPD5B (power), P3 VCCL_GXBL (power), P11 VCC (power), P13 VCC (power), P15 VCC (power), P17 VCCPD5A (power), P20 VCCIO5B (power), R8 VCCIO3B (power), R18 VCCIO5A (power), T3 VCCH_GXBL (power), T4 VCCA_FPLL (power), T6 VCCIO3A (power), T16 VCCIO4A (power), T21 VCCIO5A (power), U18 VCCA_FPLL (power), U20 VCCPGM (power), V6 VCCPD3A (power), V7 VCCIO3B (power), V10 VCCPD3B4A (power), V12 VCCIO4A (power), V14 VCCPD3B4A (power), V16 VCCPD3B4A (power), V21 VREFB5AN0 (power), W6 VREFB3AN0 (power), W9 VCCPD3B4A (power), W10 VCCIO3B (power), W15 VCCIO4A (power), W19 VCC_AUX (power), Y6 VCCPGM (power), Y18 VCCIO4A (power)
part L pins: A5 GND (power), A11 GND (power), A21 GND (power), AA3 GND (power), AA4 GND (power), AA11 GND (power), AA16 GND (power), AB1 GND (power), AB2 GND (power), AB19 GND (power), B1 GND (power), B2 GND (power), B14 GND (power), C3 GND (power), C4 GND (power), C7 GND (power), C17 GND (power), C22 GND (power), D1 GND (power), D2 GND (power), D5 GND (power), D10 GND (power), D20 GND (power), E3 GND (power), E4 GND (power), E13 GND (power), F1 GND (power), F2 GND (power), F3 GND (power), F6 GND (power), F11 GND (power), F16 GND (power), F17 GND (power), F21 GND (power), G3 GND (power), G9 GND (power), H1 GND (power), H2 GND (power), H3 GND (power), H4 GND (power), H14 GND (power), J3 GND (power), J5 GND (power), J11 GND (power), J13 GND (power), J15 GND (power), J20 GND (power), K1 GND (power), K2 GND (power), K4 GND (power), K8 GND (power), K10 GND (power), K12 GND (power), K14 GND (power), L3 GND (power), L5 GND (power), L11 GND (power), L13 GND (power), L16 GND (power), M1 GND (power), M2 GND (power), M4 GND (power), M9 GND (power), M12 GND (power), M14 GND (power), M19 GND (power), N3 GND (power), N5 GND (power), N7 GND (power), N11 GND (power), N13 GND (power), N15 GND (power), N22 GND (power), P1 GND (power), P2 GND (power), P4 GND (power), P10 GND (power), R3 GND (power), R13 GND (power), T1 GND (power), T2 GND (power), T11 GND (power), U3 GND (power), U5 GND (power), U9 GND (power), U14 GND (power), U19 GND (power), V1 GND (power), V2 GND (power), V17 GND (power), V22 GND (power), W3 GND (power), W4 GND (power), W20 GND (power), Y1 GND (power), Y2 GND (power), Y5 GND (power), Y8 GND (power), Y13 GND (power)
part M pins: A1 RREF_TL, AB3 DNU, B3 DNU, B4 DNU, D21 DNU, E10 DNU, V11 DNU
part A text: BANK 3A
part B text: BANK 3B
part C text: BANK 4A
part D text: BANK 5A
part E text: BANK 5B
part F text: BANK 7A
part G text: BANK 8A

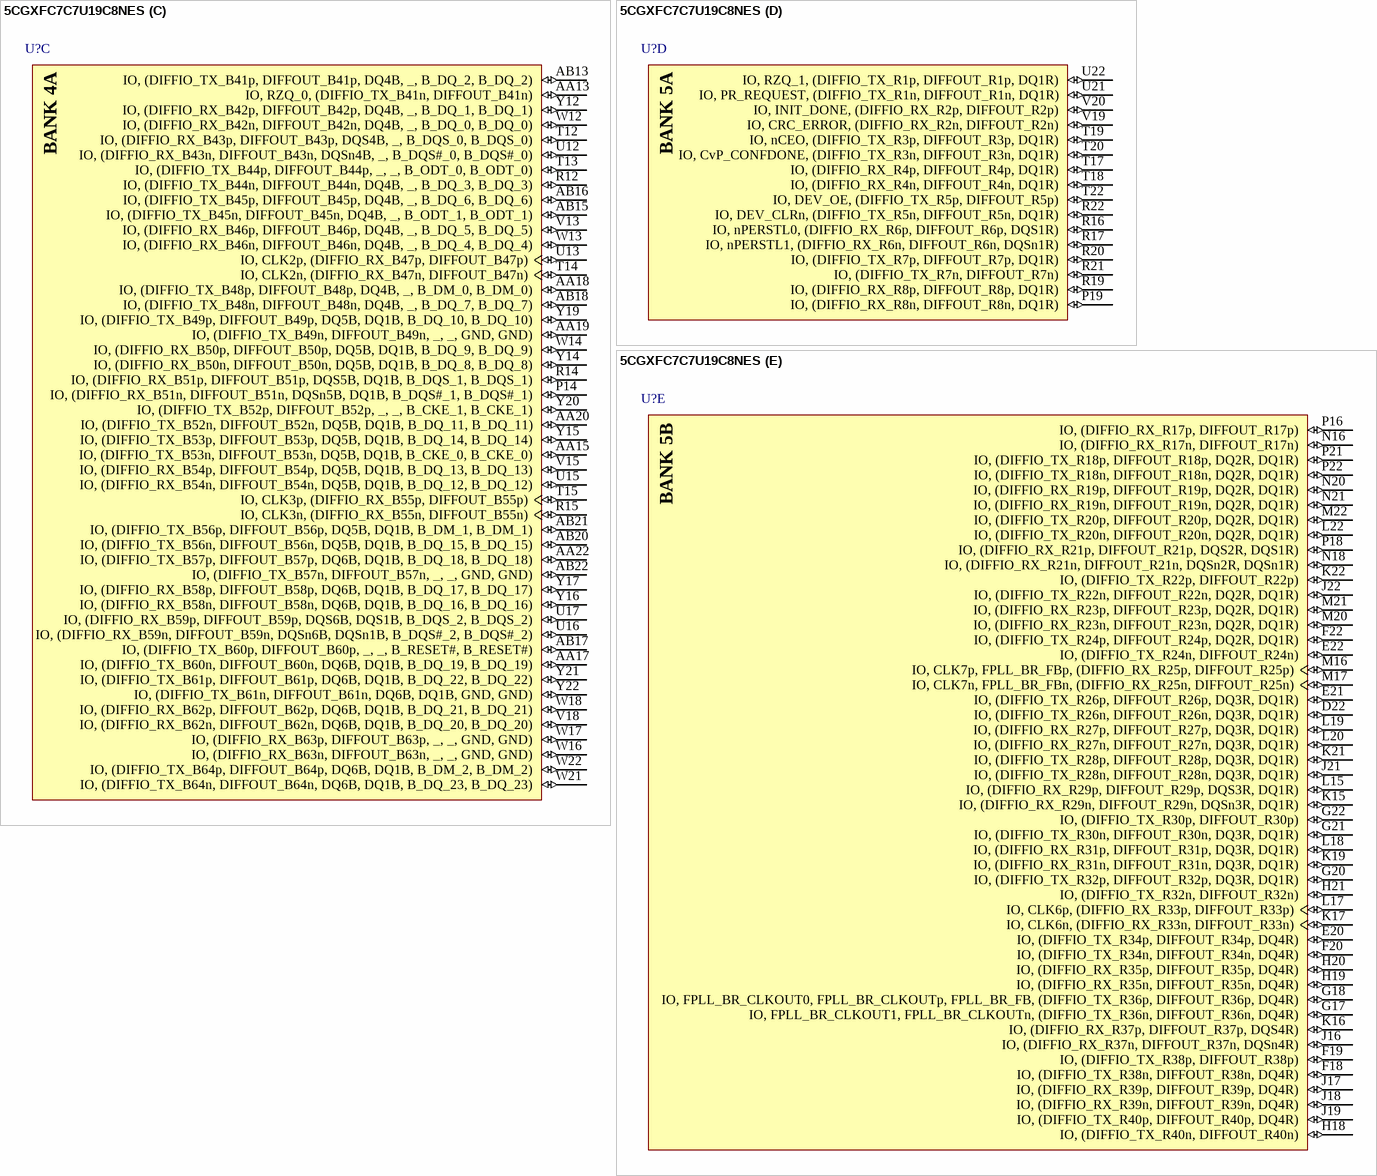
[diagram p131: symbol 5CGXFC7C7U19C8NES]

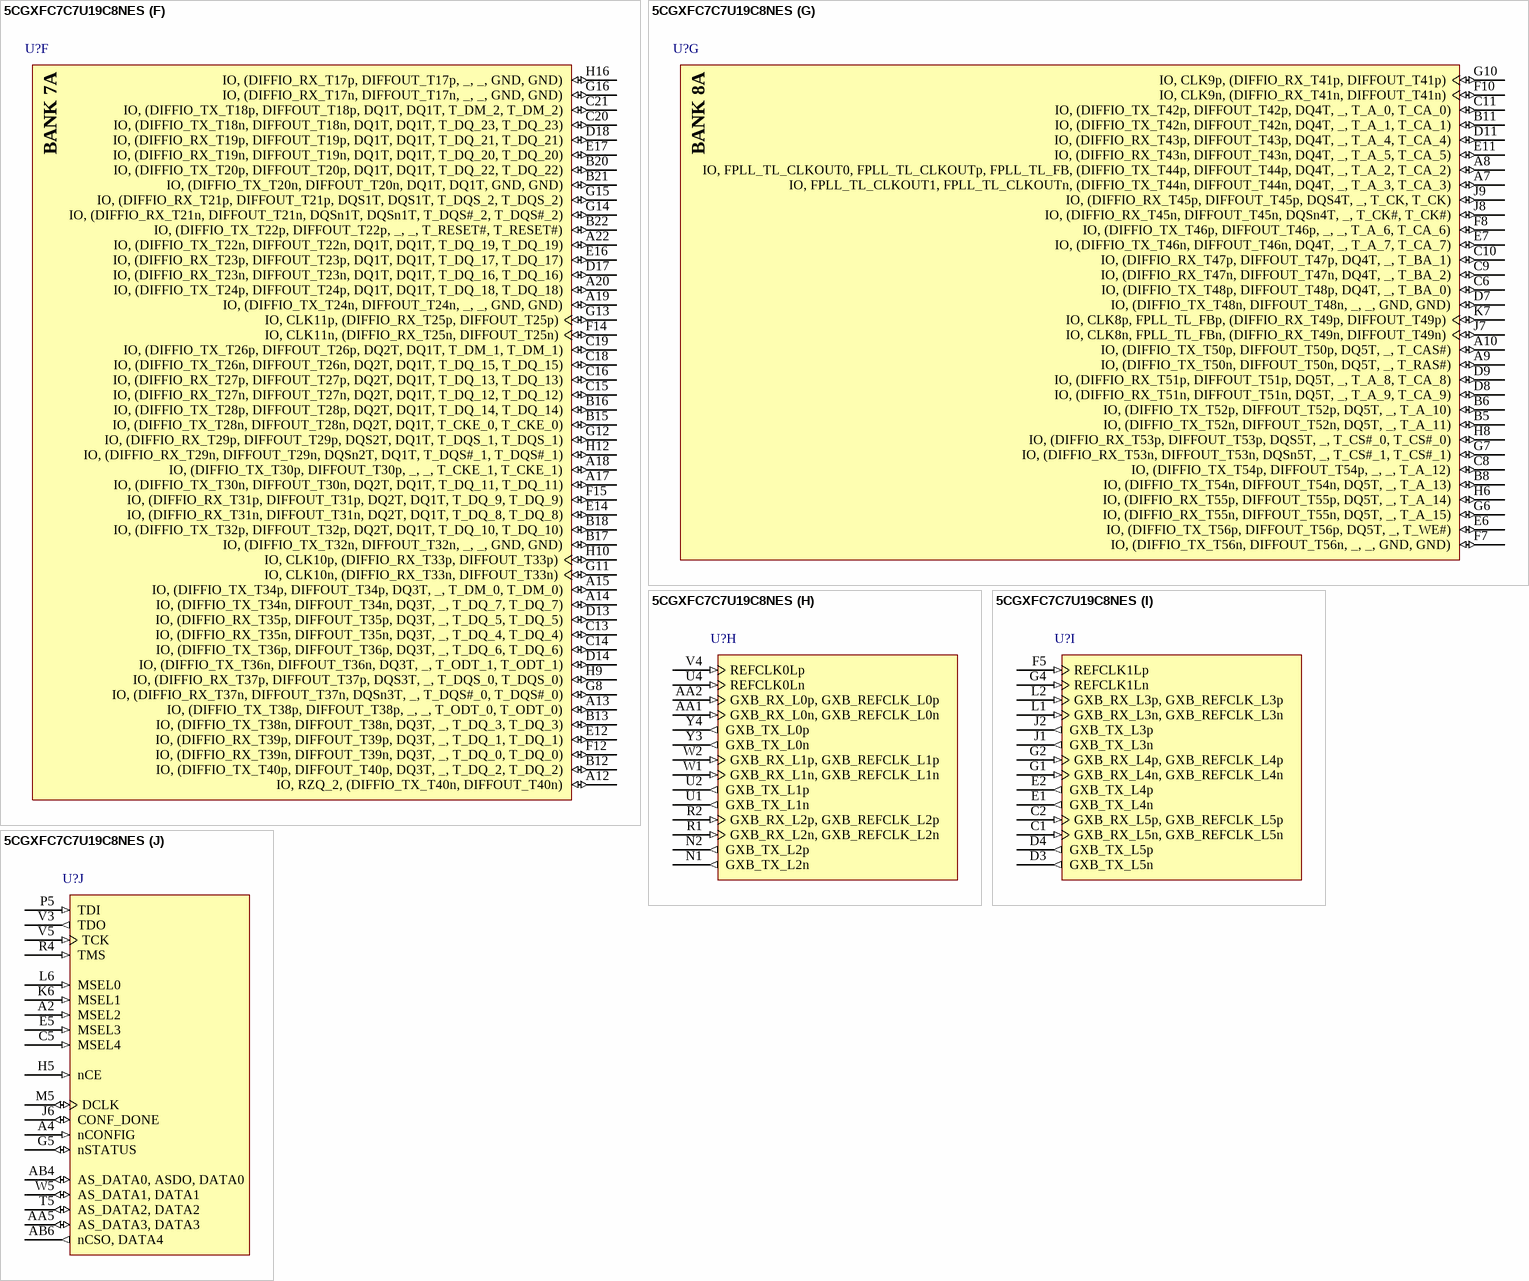
[diagram p132: symbol 5CGXFC7C7U19C8NES]

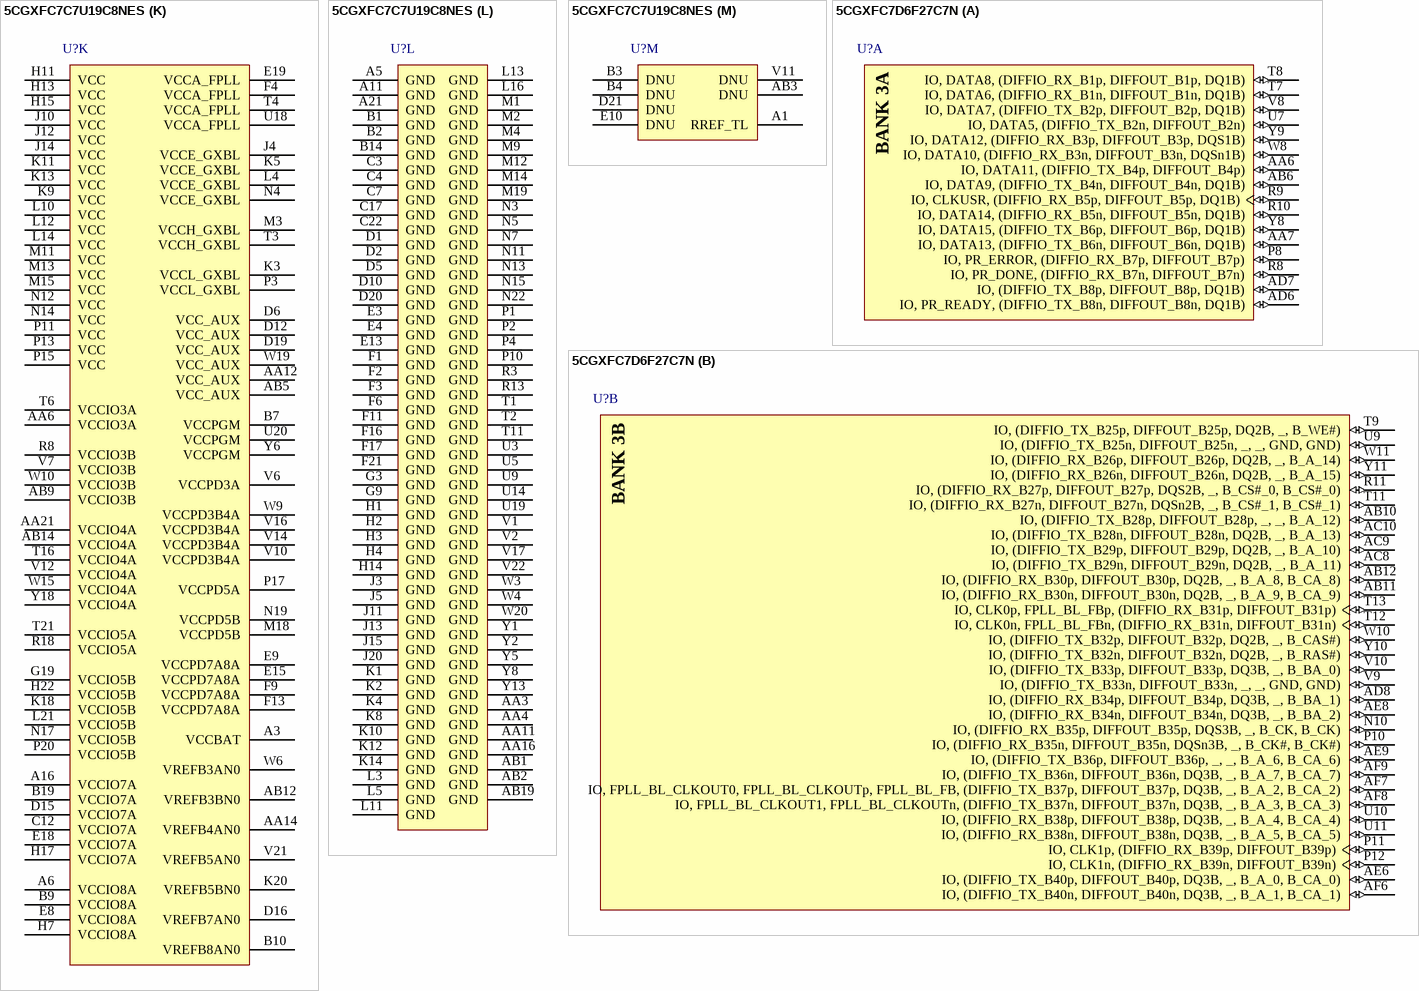
[diagram p133: symbols 5CGXFC7C7U19C8NES to 5CGXFC7D6F27C7N]